# Altium schematic symbol library klp.SchLib: 211 symbols (part 1 of 2)
Pins are listed as number, name and electrical type; pins without a type are passive.

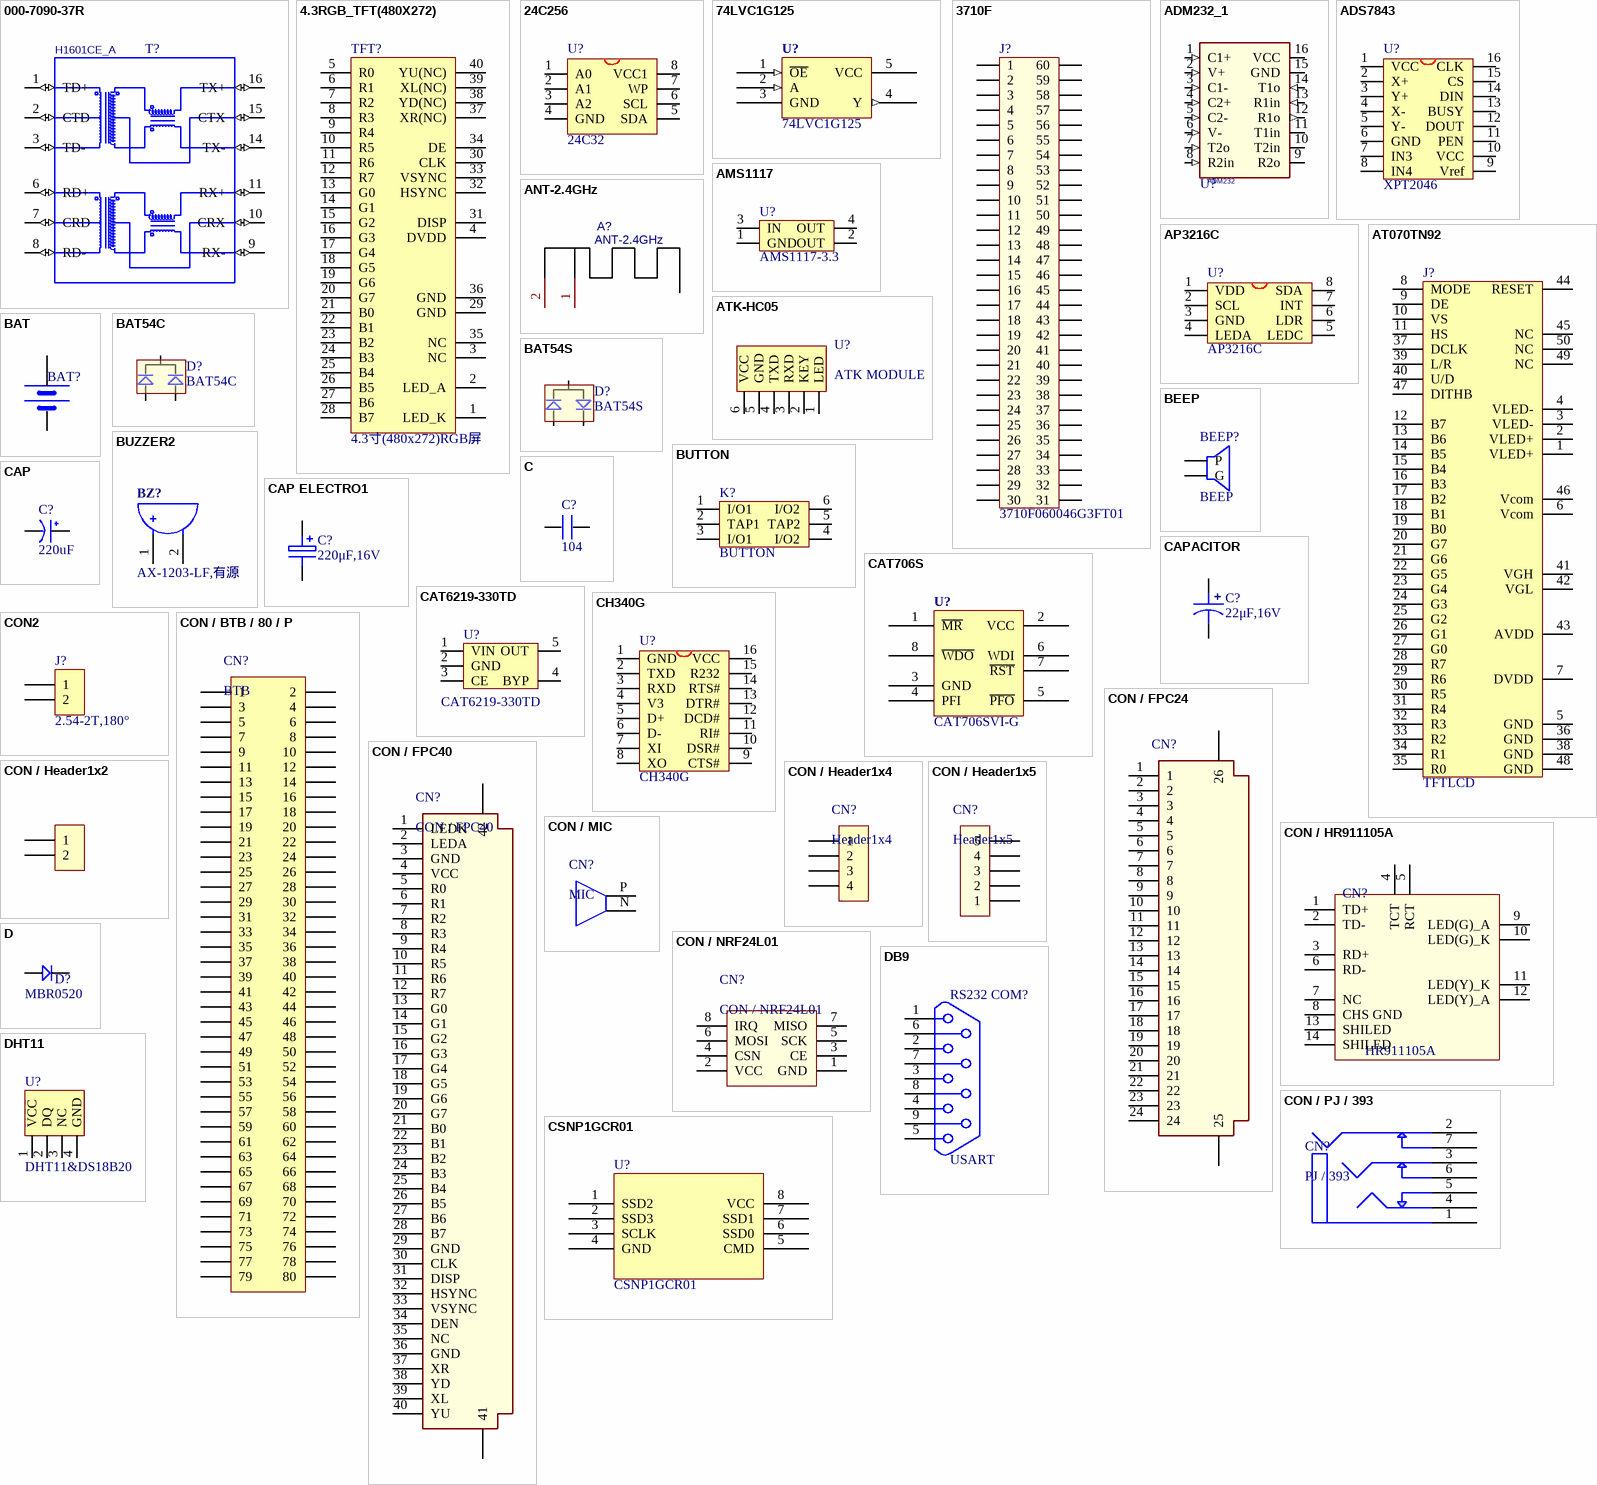
[diagram p0: symbols 000-7090-37R to DHT11]

## 000-7090-37R
designator T?  DEVICE: H1601CE_A  (hidden comment: 000-7090-37R)
PARTS: 1; LEVEL: STD; NC: 4,5,12,13; OriginalSymbolOrigin: (0,0); CODE: 9050179; %195%%232%%202%%246%: LAN变压器-1:1-0.35MH-1-2-100BASE-T接口模块-SMT; COMPONENT_HIGH_MAX: 6.4MM; PKG_TYPE: STFM16-50-299; %208%%161%%192%%224%%195%%251%%179%%198%: LAN变压器
footprint STFM16-50-2990
pins: 1 TD+ (io), 2 CTD (io), 3 TD- (io), 6 RD+ (io), 7 CRD (io), 8 RD- (io), 9 RX- (io), 10 CRX (io), 11 RX+ (io), 14 TX- (io), 15 CTX (io), 16 TX+ (io)

## 4.3RGB_TFT(480X272)
designator TFT?, comment 4.3寸(480x272)RGB屏
4.3RGB_TFT(480X272)
footprint FPC40
pins: 1 LED_K, 2 LED_A, 3 NC, 4 DVDD, 5 R0, 6 R1, 7 R2, 8 R3, 9 R4, 10 R5, 11 R6, 12 R7, 13 G0, 14 G1, 15 G2, 16 G3, 17 G4, 18 G5, 19 G6, 20 G7, 21 B0, 22 B1, 23 B2, 24 B3, 25 B4, 26 B5, 27 B6, 28 B7, 29 GND, 30 CLK, 31 DISP, 32 HSYNC, 33 VSYNC, 34 DE, 35 NC, 36 GND, 37 XR(NC), 38 YD(NC), 39 XL(NC), 40 YU(NC)

## 24C256
designator U?, comment 24C32
EEPROM
footprint SOP-8 (SSOP8)
footprint TSSOP8 (Shrink Small Outline, MSOP; 8 Leads; Body Width 3 mm; Pitch 0.65 mm)
pins: 1 A0, 2 A1, 3 A2, 4 GND, 5 SDA, 6 SCL, 7 WP, 8 VCC1

## 74LVC1G125
designator U?
74LVC1G125GV,SOT-23,NXP,RoHS; 物料代码: 1.05.05.0117; 名称: IC; 设备封装名称: SOT-23-5_74LVC1G125GV; 贴片和直插: SMT; 封装: SOT-23; 厂商: NXP; RoHS: RoHS; 型号: 74LVC1G125GV; ComponentLink1Description: ErpDataInfo; ComponentLink1URL: http://erp.zlgmcu.com/ErpExt/ErpData/ListMateriel.aspx?pkey=1.05.05.0117; Value: 74LVC1G125GV
footprint SOT-23-5
pins: 1 ~{OE} (in), 2 A (in), 3 GND (power), 4 Y (out), 5 VCC
2 alternate drawings of the same symbol

## 3710F
designator J?, comment 3710F060046G3FT01
footprint 3710F060046G3FT01 (PIN:0.8mm;SOP;FEMALE)
pins: 1, 2, 3, 4, 5, 6, 7, 8, 9, 10, 11, 12, 13, 14, 15, 16, 17, 18, 19, 20, 21, 22, 23, 24, 25, 26, 27, 28, 29, 30, 31, 32, 33, 34, 35, 36, 37, 38, 39, 40, 41, 42, 43, 44, 45, 46, 47, 48, 49, 50, 51, 52, 53, 54, 55, 56, 57, 58, 59, 60

## ADM232_1
designator U?, comment ADM232
footprint SOP16
pins: 1 C1+ (in), 2 V+ (in), 3 C1- (in), 4 C2+ (in), 5 C2- (in), 6 V- (in), 7 T2o (in), 8 R2in (in), 9 R2o, 10 T2in, 11 T1in (io), 12 R1o (out), 13 R1in (in), 14 T1o (in), 15 GND (power), 16 VCC (power)

## ADS7843
designator U?, comment XPT2046
footprint SSOP16 (ADS7843,P2P:0.625mm,w:6mm)
pins: 1 VCC, 2 X+, 3 Y+, 4 X-, 5 Y-, 6 GND, 7 IN3, 8 IN4, 9 Vref, 10 VCC, 11 PEN, 12 DOUT, 13 BUSY, 14 DIN, 15 CS, 16 CLK

## AMS1117
designator U?, comment AMS1117-3.3
footprint AMS1117
pins: 1 GND, 2 OUT, 3 IN, 4 OUT

## ANT-2.4GHz
designator A?
Contributor: kwang0621; BOM_Manufacturer Part: ANT-2.4GHz; spicePre: A; spiceSymbolName: ANT-2.4GHz
footprint ANT-2.4GHZ-04
pins: 1 FEED, 2 GND

## AP3216C
designator U?
ALS+PS Sensor
footprint QFN8 (QFN,8P,P0.97)
pins: 1 VDD, 2 SCL, 3 GND, 4 LEDA, 5 LEDC, 6 LDR, 7 INT, 8 SDA

## AT070TN92
designator J?, comment TFTLCD
7' TFTLCD
footprint FPC-TOP50 (FPCTOP;0.5mm;)
pins: 1 VLED+, 2 VLED+, 3 VLED-, 4 VLED-, 5 GND, 6 Vcom, 7 DVDD, 8 MODE, 9 DE, 10 VS, 11 HS, 12 B7, 13 B6, 14 B5, 15 B4, 16 B3, 17 B2, 18 B1, 19 B0, 20 G7, 21 G6, 22 G5, 23 G4, 24 G3, 25 G2, 26 G1, 27 G0, 28 R7, 29 R6, 30 R5, 31 R4, 32 R3, 33 R2, 34 R1, 35 R0, 36 GND, 37 DCLK, 38 GND, 39 L/R, 40 U/D, 41 VGH, 42 VGL, 43 AVDD, 44 RESET, 45 NC, 46 Vcom, 47 DITHB, 48 GND, 49 NC, 50 NC
2 alternate drawings of the same symbol

## ATK-HC05
designator U?, comment ATK MODULE
ATK-HC05
footprint HEAD6 (PIN:2.54mm;HEAD;)
pins: 1 LED, 2 KEY, 3 RXD, 4 TXD, 5 GND, 6 VCC

## BAT
designator BAT?, comment BATT  (value not drawn)
footprint BATM
pins: 1 VCC, 2 GND

## BAT54C
designator D?
双肖特基二极管
footprint SOT-23 (SOT-23; 3 Leads; Body 3.0 x 2.5 mm, inc. leads (LxW max))
pins: 1, 2, 3

## BAT54S
designator D?
双肖特基二极管
footprint SOT-23 (SOT-23; 3 Leads; Body 3.0 x 2.5 mm, inc. leads (LxW max))
pins: 1, 2, 3

## BEEP
designator BEEP?
footprint BUZZ0.25
footprint BELL-5 (PIN:5MM,SIZE:10MM)
pins: 1 P, 2 G

## BUTTON
designator K?
footprint BTN8.5*8.5
footprint BTN7*7 (7mm*7mm)
pins: 1 I/O1, 2 TAP1, 3 I/O1, 4 I/O2, 5 TAP2, 6 I/O2

## BUZZER2
designator BZ?  value AX-1203-LF,有源  (hidden comment: BUZZER2)
AX-1203-LF,有源,Φ12×7.5mm,,常州笠翔,RoHS; 物料代码: 1.06.09.0013; 名称: 讯响器; 贴片和直插: THT; 器件优选方案: 优先选用; 厂商: 常州笠翔; RoHS: RoHS; 型号: AX-1203-LF,有源,Φ12×7.5mm; ComponentLink1Description: ErpDataInfo; ComponentLink1URL: http://erp.zlgmcu.com/ErpExt/ErpData/ListMateriel.aspx?pkey=1.06.09.0013
footprint BUZZ-.28/.46
pins: 1 A, 2 B
2 alternate drawings of the same symbol

## C
designator C?, comment 104
footprint 0603P
footprint 0805
footprint CC5.08 (CAP0.1)
footprint CC4.572 (222/332)
footprint 1206
footprint 1210
footprint CC6.096
footprint CC7.62
footprint CVAR (4MM*6.6MM)
footprint 0805C
footprint 0402C
footprint 0603C
pins: 1, 2

## CAP
designator C?, comment 220uF
footprint C1206
footprint CAP2.54 (RB.1/.2)
footprint CAP5.08 (RB.2/.4)
footprint CAP7.62 (25V 2200uF)
footprint CAP10.16 (50V10000uF)
footprint CAP10.9 (50V 2200uF)
footprint CAP3.0 (100V 10uF)
footprint CAP8.0 (25V/4700uF)
footprint CAP8.0_2 (50V/4700uF)
footprint C7040 (7MM*4MM)
footprint CC1010 (SMD;W:10mm;L:10mm;)
footprint CC6.56.5 (SMD;W:6.5mm;L:6.5mm;)
footprint CC88 (SMD;W:8mm;L:8mm;)
footprint CAP2.54M (6mm*8mm)
pins: 1 VCC, 2 GND

## CAP ELECTRO1
designator C?, comment 220μF,16V
220μF,16V,Ф6.3×7mm,,珠海华冠,RoHS; 物料代码: 1.02.11.0018; 名称: 电解电容; 贴片和直插: THT; 厂商: 珠海华冠; RoHS: RoHS; 型号: 220μF,16V,Ф6.3×7mm; ComponentLink1Description: ErpDataInfo; ComponentLink1URL: http://erp.zlgmcu.com/ErpExt/ErpData/ListMateriel.aspx?pkey=1.02.11.0018; Value: 220μF,16V
footprint RB-.1/.25
pins: 1, 2
2 alternate drawings of the same symbol

## CAPACITOR
designator C?, comment 22μF,16V
22μF,16V,B型,,AVX,RoHS; 物料代码: 1.02.05.0015; 名称: 钽电容; 设备封装名称: B_22uF_16V; 贴片和直插: SMT; 器件优选方案: 优先选用; 厂商: AVX; RoHS: RoHS; 型号: 22μF,16V,B型; ComponentLink1Description: ErpDataInfo; ComponentLink1URL: http://erp.zlgmcu.com/ErpExt/ErpData/ListMateriel.aspx?pkey=1.02.05.0015; Value: 22μF,16V
footprint CAP-B (121120 改动了一点lsb)
pins: 1, 2
2 alternate drawings of the same symbol

## CAT706S
designator U?  value CAT706SVI-G  (hidden comment: CAT706S)
CAT706SVI-G,SO-8,ON; 物料代码: 1.05.07.0027; 名称: IC; 设备封装名称: SO-8_CAT706SVI-G; 贴片和直插: SMT; 封装: SO-8; 厂商: ON; 型号: CAT706SVI-G; ComponentLink1Description: ErpDataInfo; ComponentLink1URL: http://erp.zlgmcu.com/ErpExt/ErpData/ListMateriel.aspx?pkey=1.05.07.0027
footprint SOIC127P600X175-8N
pins: 1 ~{MR}, 2 VCC, 3 GND, 4 PFI, 5 ~{PFO}, 6 WDI, 7 ~{RST}, 8 ~{WDO}
2 alternate drawings of the same symbol

## CAT6219-330TD
designator U?
3.3V 500mA LDO
footprint SOT-23-5
pins: 1 VIN, 2 GND, 3 CE, 4 BYP, 5 OUT

## CH340G
designator U?
USB2UART
footprint SOP16M (Small Outline; 16 Leads; Body Width 3.9 mm; Pitch 1.27 mm)
pins: 1 GND, 2 TXD, 3 RXD, 4 V3, 5 D+, 6 D-, 7 XI, 8 XO, 9 CTS#, 10 DSR#, 11 RI#, 12 DCD#, 13 DTR#, 14 RTS#, 15 R232, 16 VCC

## CON2
designator J?  value 2.54-2T,180°  (hidden comment: CON2)
2.54-2T,180°,,*; 物料代码: 1.10.06.0009; 名称: 插座; 贴片和直插: THT; 型号: 2.54-2T,180°; ComponentLink1Description: ErpDataInfo; ComponentLink1URL: http://erp.zlgmcu.com/ErpExt/ErpData/ListMateriel.aspx?pkey=1.10.06.0009
footprint CN-2-2.54 (原名：CN-2)
pins: 1, 2
2 alternate drawings of the same symbol

## CON / BTB / 80 / P
designator CN?, comment BTB
BTB板对板连接器
footprint AXK5F80547YG
pins: 1, 2, 3, 4, 5, 6, 7, 8, 9, 10, 11, 12, 13, 14, 15, 16, 17, 18, 19, 20, 21, 22, 23, 24, 25, 26, 27, 28, 29, 30, 31, 32, 33, 34, 35, 36, 37, 38, 39, 40, 41, 42, 43, 44, 45, 46, 47, 48, 49, 50, 51, 52, 53, 54, 55, 56, 57, 58, 59, 60, 61, 62, 63, 64, 65, 66, 67, 68, 69, 70, 71, 72, 73, 74, 75, 76, 77, 78, 79, 80

## CON / FPC24
designator CN?
footprint FPC24
pins: 1, 2, 3, 4, 5, 6, 7, 8, 9, 10, 11, 12, 13, 14, 15, 16, 17, 18, 19, 20, 21, 22, 23, 24, 25, 26

## CON / FPC40
designator CN?
footprint FPC40
pins: 1 LEDK, 2 LEDA, 3 GND, 4 VCC, 5 R0, 6 R1, 7 R2, 8 R3, 9 R4, 10 R5, 11 R6, 12 R7, 13 G0, 14 G1, 15 G2, 16 G3, 17 G4, 18 G5, 19 G6, 20 G7, 21 B0, 22 B1, 23 B2, 24 B3, 25 B4, 26 B5, 27 B6, 28 B7, 29 GND, 30 CLK, 31 DISP, 32 HSYNC, 33 VSYNC, 34 DEN, 35 NC, 36 GND, 37 XR, 38 YD, 39 XL, 40 YU, 41, 42

## CON / Header1x2
designator CN?, comment Header1x2
排针
footprint Header1x2
pins: 1, 2

## CON / Header1x4
designator CN?, comment Header1x4
排针
footprint HEADER1X4
pins: 1, 2, 3, 4

## CON / Header1x5
designator CN?, comment Header1x5
排针
footprint Header1x5
pins: 1, 2, 3, 4, 5

## CON / HR911105A
designator CN?, comment HR911105A
RJ45插座
footprint HR911105A (NET_WORK)
pins: 1 TD+, 2 TD-, 3 RD+, 4 TCT, 5 RCT, 6 RD-, 7 NC, 8 CHS GND, 9 LED(G)_A, 10 LED(G)_K, 11 LED(Y)_K, 12 LED(Y)_A, 13 SHILED, 14 SHILED

## CON / MIC
designator CN?, comment MIC
咪头
footprint MIC
pins: N, P

## CON / NRF24L01
designator CN?
2.4G射频无线
footprint NRF24L01
pins: 1 GND, 2 VCC, 3 CE, 4 CSN, 5 SCK, 6 MOSI, 7 MISO, 8 IRQ

## CON / PJ / 393
designator CN?, comment PJ / 393
7引脚多音频插座
footprint PJ393
pins: 1 COM, 2, 3, 4, 5, 6, 7

## CSNP1GCR01
designator U?
footprint CSNP1GCR01
pins: 1 SSD2, 2 SSD3, 3 SCLK, 4 GND, 5 CMD, 6 SSD0, 7 SSD1, 8 VCC

## D
designator D?, comment MBR0520
1N4148
footprint SOD-123
footprint DIODE_SOP (4148)
footprint DIODE-L (6A10)
footprint DIODE-M (1N5822)
footprint DIODE_S (1N4007)
footprint DIODE_3*5.3 (ME:SS14/SS24;L:5.3mm;W:3mm;)
footprint DIODE_4*5.6 (ME:RS2J.L:5.6mm;W:4mm)
footprint DIODE_6.2*8.13 (ME:RS2J.L:8.13mm;W:6.2mm)
pins: 1, 2

## DB9
designator RS232 COM?, comment USART
footprint DB9
pins: 1, 2, 3, 4, 5, 6, 7, 8, 9
2 alternate drawings of the same symbol

## DHT11
designator U?, comment DHT11&DS18B20
数字温湿度传感器
footprint DHT11 (2.54mm)
pins: 1 VCC, 2 DQ, 3 NC, 4 GND

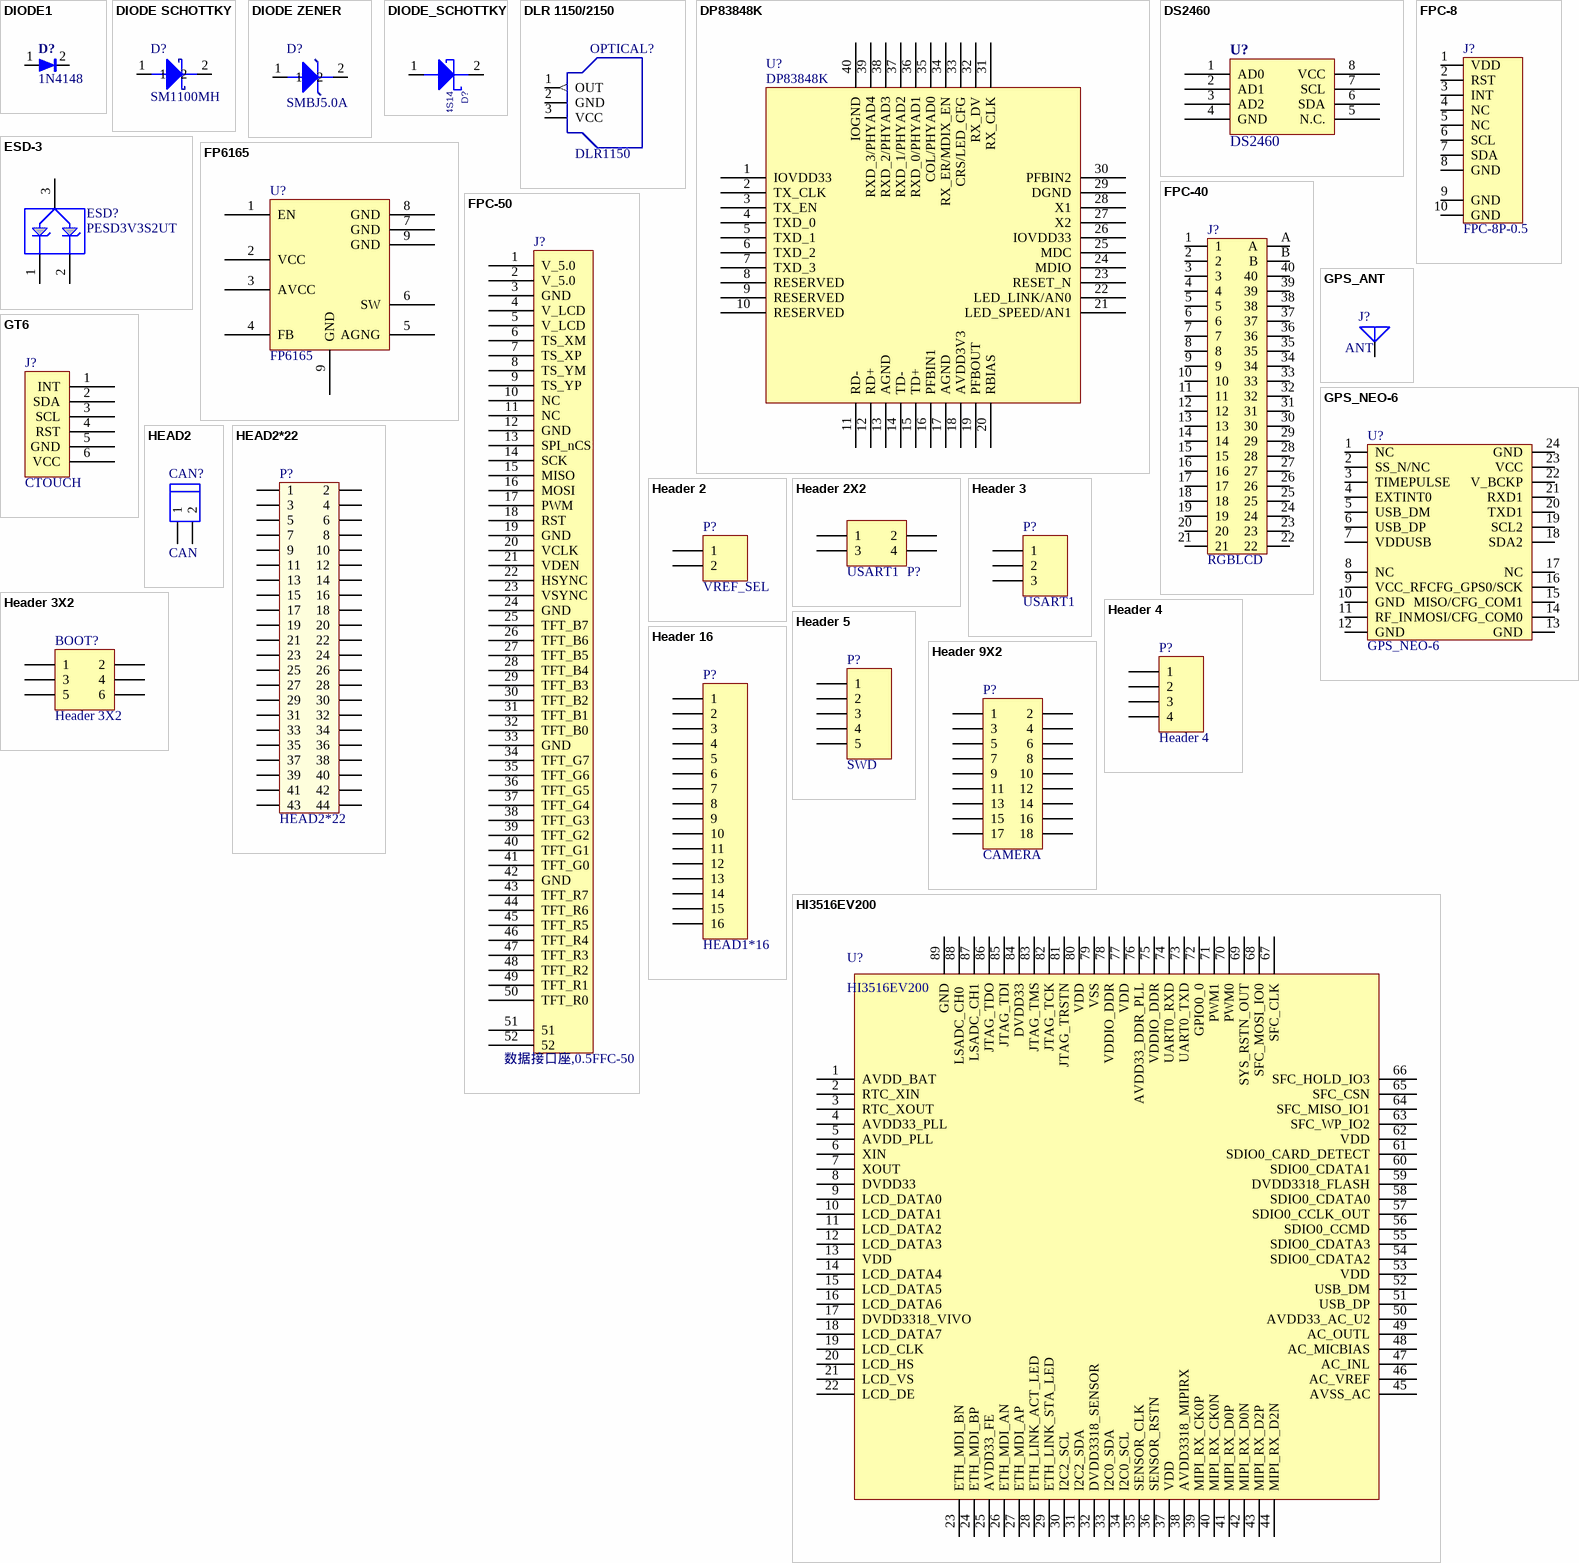
[diagram p1: symbols DIODE1 to HI3516EV200]

## DIODE1
designator D?  value 1N4148  (hidden comment: DIODE1)  (no BOM)
1N4148,SOD-323,RoHS; 物料代码: 1.04.07.0027; 名称: 二极管; 设备封装名称: SOD-323_1N4148; 贴片和直插: SMT; 封装: SOD-323; RoHS: RoHS; 型号: 1N4148; ComponentLink1Description: ErpDataInfo; ComponentLink1URL: http://erp.zlgmcu.com/ErpExt/ErpData/ListMateriel.aspx?pkey=1.04.07.0027
footprint SOD-323
pins: 1, 2
2 alternate drawings of the same symbol

## DIODE SCHOTTKY
designator D?  value SM1100MH  (hidden comment: DIODE SCHOTTKY)
SM1100MH,SOD-123,SECOS,RoHS; 物料代码: 1.04.07.0063; 名称: 肖特基二极管; 贴片和直插: SMT; 封装: SOD-123; 厂商: SECOS; RoHS: RoHS; 型号: SM1100MH; ComponentLink1Description: ErpDataInfo; ComponentLink1URL: http://erp.zlgmcu.com/ErpExt/ErpData/ListMateriel.aspx?pkey=1.04.07.0063
footprint SOD-123
pins: 1, 2

## DIODE ZENER
designator D?  value SMBJ5.0A  (hidden comment: DIODE ZENER)
SMBJ5.0A,DO-214AA,君耀,RoHS; 物料代码: 1.04.03.0001; 名称: TVS管; 设备封装名称: DO-214AA_SMBJ5.0A; 贴片和直插: SMT; 器件优选方案: 优先选用; 封装: DO-214AA; 厂商: 君耀; RoHS: RoHS; 型号: SMBJ5.0A; ComponentLink1Description: ErpDataInfo; ComponentLink1URL: http://erp.zlgmcu.com/ErpExt/ErpData/ListMateriel.aspx?pkey=1.04.03.0001
footprint 1812D
pins: 1, 2
2 alternate drawings of the same symbol

## DIODE_SCHOTTKY
designator D?, comment XBS104S14
Page: 7
footprint SOD-123
pins: 1, 2

## DLR 1150/2150
designator OPTICAL?, comment DLR1150
音频光纤接收座
footprint DLR-1150 / 2150 (光纤接收座13.55x9.70x12.00)
pins: 1 OUT (out), 2 GND (power), 3 VCC (power)

## DP83848K
designator U?
Industrial Temperature Single Port 10/100 Ethernet Transceiver
footprint QFN50P600X600X100-41N
pins: 1 IOVDD33, 2 TX_CLK, 3 TX_EN, 4 TXD_0, 5 TXD_1, 6 TXD_2, 7 TXD_3, 8 RESERVED, 9 RESERVED, 10 RESERVED, 11 RD-, 12 RD+, 13 AGND, 14 TD-, 15 TD+, 16 PFBIN1, 17 AGND, 18 AVDD3V3, 19 PFBOUT, 20 RBIAS, 21 LED_SPEED/AN1, 22 LED_LINK/AN0, 23 RESET_N, 24 MDIO, 25 MDC, 26 IOVDD33, 27 X2, 28 X1, 29 DGND, 30 PFBIN2, 31 RX_CLK, 32 RX_DV, 33 CRS/LED_CFG, 34 RX_ER/MDIX_EN, 35 COL/PHYAD0, 36 RXD_0/PHYAD1, 37 RXD_1/PHYAD2, 38 RXD_2/PHYAD3, 39 RXD_3/PHYAD4, 40 IOGND, 41 DAP hidden to GND

## DS2460
designator U?
DS2460,SO-8,Maxim,RoHS; 物料代码: 1.05.10.0117; 名称: IC; 设备封装名称: SO-8_DS2460; 贴片和直插: SMT; 封装: SO-8; 厂商: Maxim; RoHS: RoHS; 型号: DS2460; ComponentLink1Description: ErpDataInfo; ComponentLink1URL: http://erp.zlgmcu.com/ErpExt/ErpData/ListMateriel.aspx?pkey=1.05.10.0117; Value: DS2460
footprint SOIC127P600X175-8N
pins: 1 AD0, 2 AD1, 3 AD2, 4 GND, 5 N.C., 6 SDA, 7 SCL, 8 VCC
2 alternate drawings of the same symbol

## ESD-3
designator ESD?  value PESD3V3S2UT  (hidden comment: ESD-3)
PESD3V3S2UT,SOT-23,NXP,RoHS; 物料代码: 1.05.10.0361; 名称: IC; 设备封装名称: SOT-23_PESD3V3S2UT; 贴片和直插: SMT; 封装: SOT-23; 厂商: NXP; RoHS: RoHS; 型号: PESD3V3S2UT; ComponentLink1Description: ErpDataInfo; ComponentLink1URL: http://erp.zlgmcu.com/ErpExt/ErpData/ListMateriel.aspx?pkey=1.05.10.0361
footprint SOT-23
pins: 1, 2, 3
2 alternate drawings of the same symbol

## FP6165
designator U?
footprint SOP-8(PAD) (AOZ1284 4A输出电源芯片的封装)
pins: 1 EN, 2 VCC, 3 AVCC, 4 FB, 5 AGNG, 6 SW, 7 GND, 8 GND, 9 GND, 9 GND

## FPC-8
designator J?, comment FPC-8P-0.5
FPC-8P-0.5mm
footprint FPC50
footprint FPC-8P (FPC;8P;0.5mm;)
pins: 1 VDD, 2 RST, 3 INT, 4 NC, 5 NC, 6 SCL, 7 SDA, 8 GND, 9 GND, 10 GND
2 alternate drawings of the same symbol

## FPC-40
designator J?, comment RGBLCD
FPC-40P-0.5mm
footprint FPC-TOP40 (FPCTOP;0.5mm;)
pins: 1, 2, 3, 4, 5, 6, 7, 8, 9, 10, 11, 12, 13, 14, 15, 16, 17, 18, 19, 20, 21, 22, 23, 24, 25, 26, 27, 28, 29, 30, 31, 32, 33, 34, 35, 36, 37, 38, 39, 40, A, B

## FPC-50
designator J?  value 数据接口座,0.5FFC-50  (hidden comment: FPC-50)
数据接口座,0.5FFC-50,SMD,下接,RoHS; 物料代码: 1.10.01.0028; 名称: 连接器-SMD; 贴片和直插: SMT; RoHS: RoHS; 型号: 数据接口座,0.5FFC-50,SMD,下接; ComponentLink1Description: ErpDataInfo; ComponentLink1URL: http://erp.zlgmcu.com/ErpExt/ErpData/ListMateriel.aspx?pkey=1.10.01.0028
footprint FFC0.5-50P-A
pins: 1 V_5.0, 2 V_5.0, 3 GND, 4 V_LCD, 5 V_LCD, 6 TS_XM, 7 TS_XP, 8 TS_YM, 9 TS_YP, 10 NC, 11 NC, 12 GND, 13 SPI_nCS, 14 SCK, 15 MISO, 16 MOSI, 17 PWM, 18 RST, 19 GND, 20 VCLK, 21 VDEN, 22 HSYNC, 23 VSYNC, 24 GND, 25 TFT_B7, 26 TFT_B6, 27 TFT_B5, 28 TFT_B4, 29 TFT_B3, 30 TFT_B2, 31 TFT_B1, 32 TFT_B0, 33 GND, 34 TFT_G7, 35 TFT_G6, 36 TFT_G5, 37 TFT_G4, 38 TFT_G3, 39 TFT_G2, 40 TFT_G1, 41 TFT_G0, 42 GND, 43 TFT_R7, 44 TFT_R6, 45 TFT_R5, 46 TFT_R4, 47 TFT_R3, 48 TFT_R2, 49 TFT_R1, 50 TFT_R0, 51, 52

## GPS_ANT
designator J?, comment ANT
GPS陶瓷天线25mm*25mm
footprint GPS_ANT (25mm*25m)
pins: 1 ANT

## GPS_NEO-6
designator U?
footprint GPS_NEO-6 (NEO-6G/NEO-6M/NEO-6Q)
pins: 1 NC, 2 SS_N/NC, 3 TIMEPULSE, 4 EXTINT0, 5 USB_DM, 6 USB_DP, 7 VDDUSB, 8 NC, 9 VCC_RF, 10 GND, 11 RF_IN, 12 GND, 13 GND, 14 MOSI/CFG_COM0, 15 MISO/CFG_COM1, 16 CFG_GPS0/SCK, 17 NC, 18 SDA2, 19 SCL2, 20 TXD1, 21 RXD1, 22 V_BCKP, 23 VCC, 24 GND

## GT6
designator J?, comment CTOUCH
footprint CTOUCH_6
pins: 1 INT, 2 SDA, 3 SCL, 4 RST, 5 GND, 6 VCC

## HEAD2
designator CAN?, comment CAN
footprint HEAD2H (HEAD5.08)
footprint HEAD2L (HEAD5.08)
footprint HEAD2L-0.8 (10.16mm*10.16mm,pin:5.08mm)
footprint HEAD2W (2EDG-2,pin:5.08mm)
pins: 1, 2

## HEAD2*22
designator P?
footprint HEAD2*22 (PIN:2.54mm;HEAD;)
pins: 1, 2, 3, 4, 5, 6, 7, 8, 9, 10, 11, 12, 13, 14, 15, 16, 17, 18, 19, 20, 21, 22, 23, 24, 25, 26, 27, 28, 29, 30, 31, 32, 33, 34, 35, 36, 37, 38, 39, 40, 41, 42, 43, 44

## Header 2
designator P?, comment VREF_SEL
Header, 2-Pin; LatestRevisionDate: 17-Jul-2002; LatestRevisionNote: Re-released for DXP Platform.; Publisher: Altium Limited
footprint HDR1X2 (Connector; Header; 2 Position)
pins: 1, 2

## Header 2X2
designator P?, comment USART1
Header, 2-Pin, Dual row; LatestRevisionDate: 17-Jul-2002; LatestRevisionNote: Re-released for DXP Platform.; Publisher: Altium Limited
footprint HDR2X2 (Connector; Header; 2x2 Position)
pins: 1, 2, 3, 4

## Header 3
designator P?, comment USART1
Header, 3-Pin; LatestRevisionDate: 17-Jul-2002; LatestRevisionNote: Re-released for DXP Platform.; Publisher: Altium Limited
footprint HDR1X3 (Connector; Header; 3 Position)
signal-integrity model Connector
pins: 1, 2, 3

## Header 3X2
designator BOOT?
Header, 3-Pin, Dual row; LatestRevisionDate: 17-Jul-2002; LatestRevisionNote: Re-released for DXP Platform.; Publisher: Altium Limited
footprint HDR2X3 (Connector; Header; 3x2 Position)
pins: 1, 2, 3, 4, 5, 6

## Header 4
designator P?
Header, 4-Pin; LatestRevisionDate: 17-Jul-2002; LatestRevisionNote: Re-released for DXP Platform.; Publisher: Altium Limited
footprint HDR1X4 (Connector; Header; 4 Position)
pins: 1, 2, 3, 4

## Header 5
designator P?, comment SWD
Header, 5-Pin; LatestRevisionDate: 17-Jul-2002; LatestRevisionNote: Re-released for DXP Platform.; Publisher: Altium Limited
footprint HDR1X5 (Connector; Header; 5 Position)
signal-integrity model Connector
pins: 1, 2, 3, 4, 5

## Header 9X2
designator P?, comment CAMERA
Header, 9-Pin, Dual row; LatestRevisionDate: 17-Jul-2002; LatestRevisionNote: Re-released for DXP Platform.; Publisher: Altium Limited
footprint HDR2X9 (Connector; Header; 9x2 Position)
pins: 1, 2, 3, 4, 5, 6, 7, 8, 9, 10, 11, 12, 13, 14, 15, 16, 17, 18

## Header 16
designator P?, comment HEAD1*16
Header, 16-Pin; LatestRevisionDate: 17-Jul-2002; LatestRevisionNote: Re-released for DXP Platform.; Publisher: Altium Limited
footprint HDR1X16 (Connector; Header; 16 Position)
signal-integrity model Connector
pins: 1, 2, 3, 4, 5, 6, 7, 8, 9, 10, 11, 12, 13, 14, 15, 16

## HI3516EV200
designator U?
footprint V200_MLF88-035-0909L - duplicate
pins: 1 AVDD_BAT  , 2 RTC_XIN  , 3 RTC_XOUT, 4 AVDD33_PLL, 5 AVDD_PLL, 6 XIN, 7 XOUT, 8 DVDD33, 9 LCD_DATA0, 10 LCD_DATA1, 11 LCD_DATA2, 12 LCD_DATA3, 13 VDD, 14 LCD_DATA4, 15 LCD_DATA5, 16 LCD_DATA6, 17 DVDD3318_VIVO, 18 LCD_DATA7  , 19 LCD_CLK, 20 LCD_HS, 21 LCD_VS, 22 LCD_DE, 23 ETH_MDI_BN, 24 ETH_MDI_BP, 25 AVDD33_FE, 26 ETH_MDI_AN, 27 ETH_MDI_AP, 28 ETH_LINK_ACT_LED, 29 ETH_LINK_STA_LED, 30 I2C2_SCL, 31 I2C2_SDA, 32 DVDD3318_SENSOR, 33 I2C0_SDA, 34 I2C0_SCL, 35 SENSOR_CLK, 36 SENSOR_RSTN, 37 VDD, 38 AVDD3318_MIPIRX, 39 MIPI_RX_CK0P, 40 MIPI_RX_CK0N, 41 MIPI_RX_D0P, 42 MIPI_RX_D0N, 43 MIPI_RX_D2P, 44 MIPI_RX_D2N, 45 AVSS_AC, 46 AC_VREF, 47 AC_INL, 48 AC_MICBIAS, 49 AC_OUTL, 50 AVDD33_AC_U2, 51 USB_DP, 52 USB_DM, 53 VDD, 54 SDIO0_CDATA2, 55 SDIO0_CDATA3, 56 SDIO0_CCMD, 57 SDIO0_CCLK_OUT, 58 SDIO0_CDATA0, 59 DVDD3318_FLASH, 60 SDIO0_CDATA1, 61 SDIO0_CARD_DETECT, 62 VDD, 63 SFC_WP_IO2, 64 SFC_MISO_IO1, 65 SFC_CSN, 66 SFC_HOLD_IO3, 67 SFC_CLK, 68 SFC_MOSI_IO0, 69 SYS_RSTN_OUT, 70 PWM0, 71 PWM1, 72 GPIO0_0, 73 UART0_TXD, 74 UART0_RXD, 75 VDDIO_DDR, 76 AVDD33_DDR_PLL, 77 VDD, 78 VDDIO_DDR, 79 VSS, 80 VDD, 81 JTAG_TRSTN, 82 JTAG_TCK, 83 JTAG_TMS, 84 DVDD33, 85 JTAG_TDI, 86 JTAG_TDO, 87 LSADC_CH1, 88 LSADC_CH0 , 89 GND

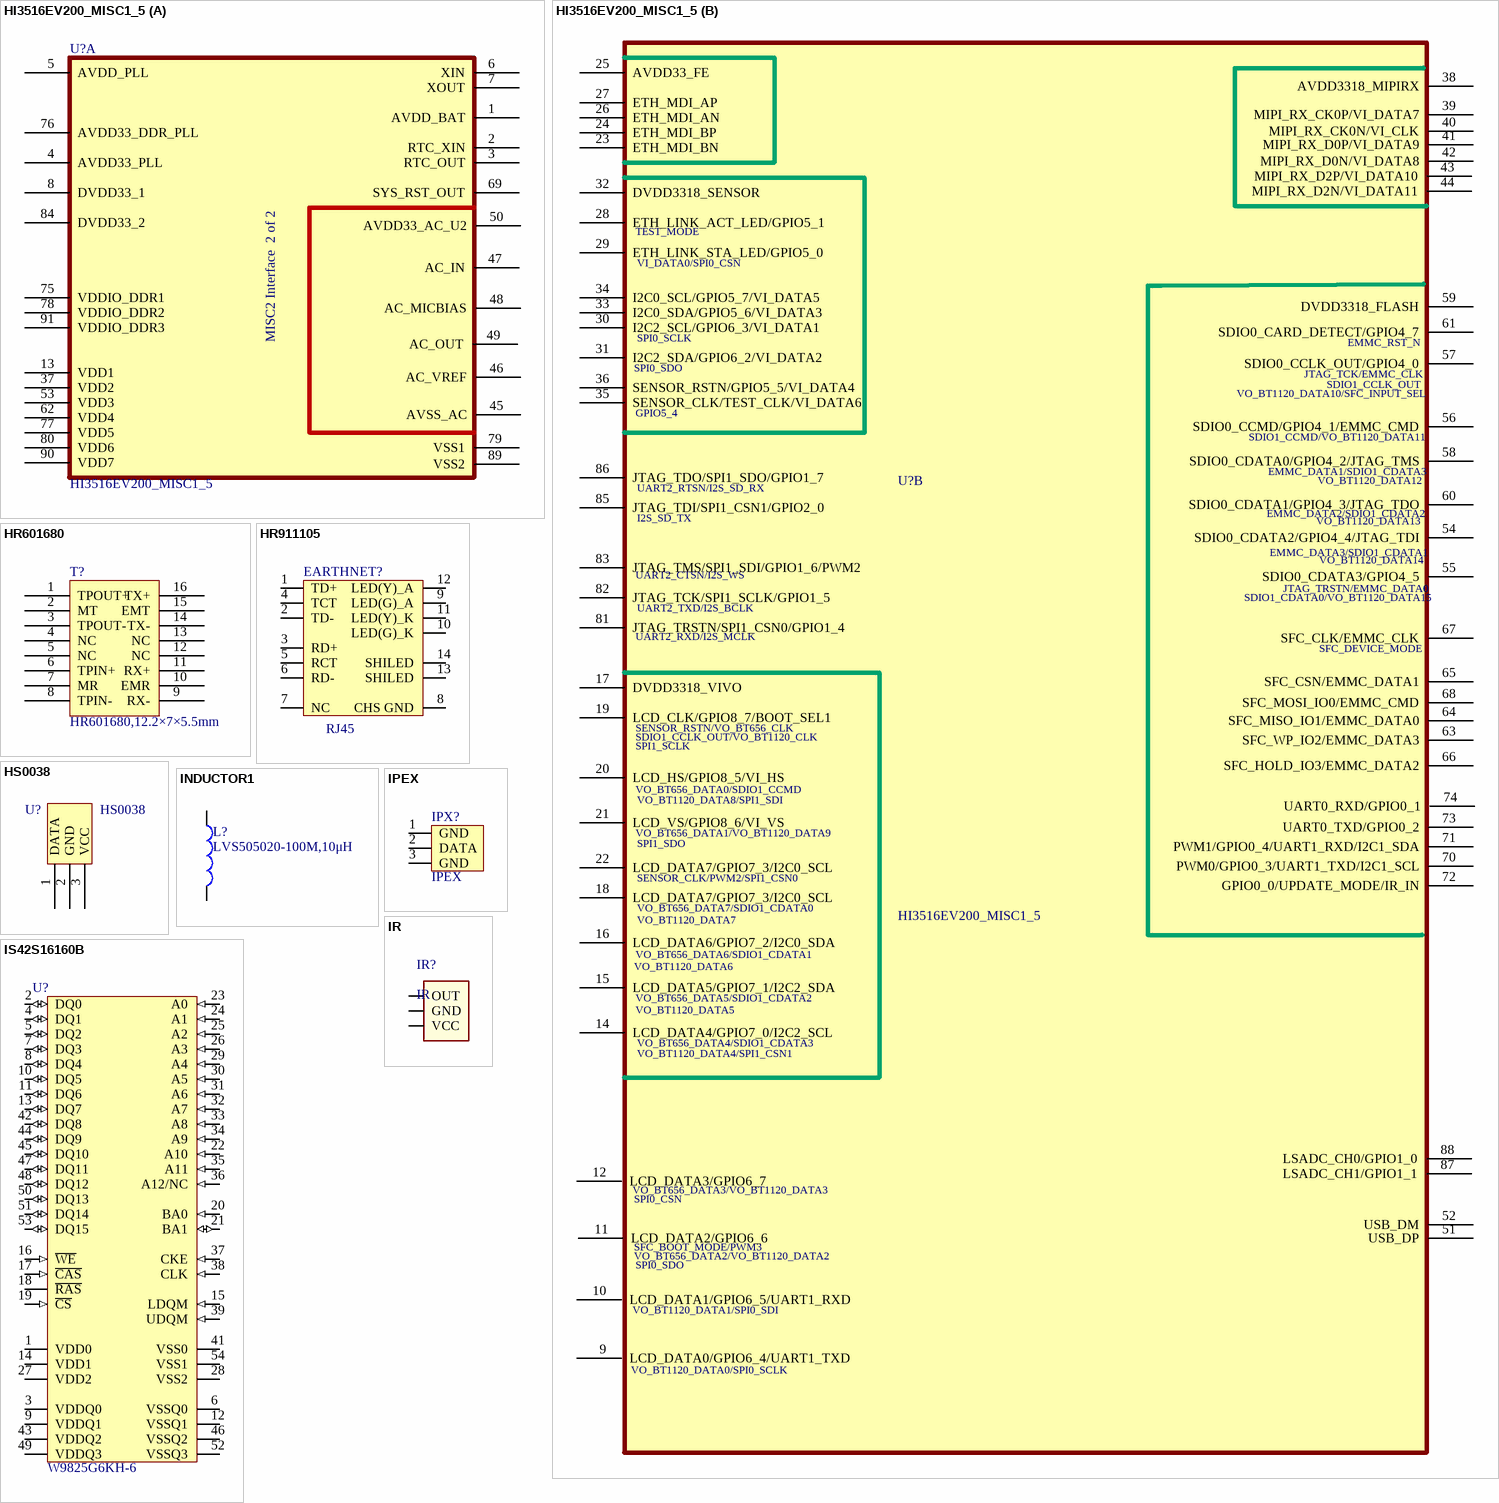
[diagram p2: symbols HI3516EV200_MISC1_5 to IS42S16160B]

## HI3516EV200_MISC1_5
designator U?
HETERO: *; PARTS: *; LEVEL: *; OriginalSymbolOrigin: *; CaptureCellPackProp: *; PKG_TYPE: *; DEVICE: *
footprint V200_MLF88-035-0909L
part A pins: 1 AVDD_BAT, 2 RTC_XIN, 3 RTC_OUT, 4 AVDD33_PLL, 5 AVDD_PLL, 6 XIN, 7 XOUT, 8 DVDD33_1, 13 VDD1, 37 VDD2, 45 AVSS_AC, 46 AC_VREF, 47 AC_IN, 48 AC_MICBIAS, 49 AC_OUT, 50 AVDD33_AC_U2, 53 VDD3, 62 VDD4, 69 SYS_RST_OUT, 75 VDDIO_DDR1, 76 AVDD33_DDR_PLL, 77 VDD5, 78 VDDIO_DDR2, 79 VSS1, 80 VDD6, 84 DVDD33_2, 89 VSS2, 90 VDD7, 91 VDDIO_DDR3
part B pins: 9 LCD_DATA0/GPIO6_4/UART1_TXD, 10 LCD_DATA1/GPIO6_5/UART1_RXD, 11 LCD_DATA2/GPIO6_6, 12 LCD_DATA3/GPIO6_7, 14 LCD_DATA4/GPIO7_0/I2C2_SCL, 15 LCD_DATA5/GPIO7_1/I2C2_SDA, 16 LCD_DATA6/GPIO7_2/I2C0_SDA, 17 DVDD3318_VIVO, 18 LCD_DATA7/GPIO7_3/I2C0_SCL, 19 LCD_CLK/GPIO8_7/BOOT_SEL1, 20 LCD_HS/GPIO8_5/VI_HS, 21 LCD_VS/GPIO8_6/VI_VS, 22 LCD_DATA7/GPIO7_3/I2C0_SCL, 23 ETH_MDI_BN, 24 ETH_MDI_BP, 25 AVDD33_FE, 26 ETH_MDI_AN, 27 ETH_MDI_AP, 28 ETH_LINK_ACT_LED/GPIO5_1, 29 ETH_LINK_STA_LED/GPIO5_0, 30 I2C2_SCL/GPIO6_3/VI_DATA1, 31 I2C2_SDA/GPIO6_2/VI_DATA2, 32 DVDD3318_SENSOR, 33 I2C0_SDA/GPIO5_6/VI_DATA3, 34 I2C0_SCL/GPIO5_7/VI_DATA5, 35 SENSOR_CLK/TEST_CLK/VI_DATA6, 36 SENSOR_RSTN/GPIO5_5/VI_DATA4, 38 AVDD3318_MIPIRX, 39 MIPI_RX_CK0P/VI_DATA7, 40 MIPI_RX_CK0N/VI_CLK, 41 MIPI_RX_D0P/VI_DATA9, 42 MIPI_RX_D0N/VI_DATA8, 43 MIPI_RX_D2P/VI_DATA10, 44 MIPI_RX_D2N/VI_DATA11, 51 USB_DP, 52 USB_DM, 54 SDIO0_CDATA2/GPIO4_4/JTAG_TDI, 55 SDIO0_CDATA3/GPIO4_5, 56 SDIO0_CCMD/GPIO4_1/EMMC_CMD, 57 SDIO0_CCLK_OUT/GPIO4_0, 58 SDIO0_CDATA0/GPIO4_2/JTAG_TMS, 59 DVDD3318_FLASH, 60 SDIO0_CDATA1/GPIO4_3/JTAG_TDO, 61 SDIO0_CARD_DETECT/GPIO4_7, 63 SFC_WP_IO2/EMMC_DATA3, 64 SFC_MISO_IO1/EMMC_DATA0, 65 SFC_CSN/EMMC_DATA1, 66 SFC_HOLD_IO3/EMMC_DATA2, 67 SFC_CLK/EMMC_CLK, 68 SFC_MOSI_IO0/EMMC_CMD, 70 PWM0/GPIO0_3/UART1_TXD/I2C1_SCL, 71 PWM1/GPIO0_4/UART1_RXD/I2C1_SDA, 72 GPIO0_0/UPDATE_MODE/IR_IN, 73 UART0_TXD/GPIO0_2, 74 UART0_RXD/GPIO0_1, 81 JTAG_TRSTN/SPI1_CSN0/GPIO1_4, 82 JTAG_TCK/SPI1_SCLK/GPIO1_5, 83 JTAG_TMS/SPI1_SDI/GPIO1_6/PWM2, 85 JTAG_TDI/SPI1_CSN1/GPIO2_0, 86 JTAG_TDO/SPI1_SDO/GPIO1_7, 87 LSADC_CH1/GPIO1_1, 88 LSADC_CH0/GPIO1_0
2 alternate drawings of the same symbol
part A text: MISC2 Interface  2 of 2
part B text: TEST_MODE; VI_DATA0/SPI0_CSN; SPI0_SCLK; EMMC_RST_N; SPI0_SDO; JTAG_TCK/EMMC_CLK; SDIO1_CCLK_OUT; VO_BT1120_DATA10/SFC_INPUT_SEL; GPIO5_4; SDIO1_CCMD/VO_BT1120_DATA11; EMMC_DATA1/SDIO1_CDATA3; VO_BT1120_DATA12; UART2_RTSN/I2S_SD_RX; EMMC_DATA2/SDIO1_CDATA2; I2S_SD_TX; VO_BT1120_DATA13; EMMC_DATA3/SDIO1_CDATA1; VO_BT1120_DATA14; UART2_CTSN/I2S_WS; JTAG_TRSTN/EMMC_DATA0; SDIO1_CDATA0/VO_BT1120_DATA15; UART2_TXD/I2S_BCLK; UART2_RXD/I2S_MCLK; SFC_DEVICE_MODE; SENSOR_RSTN/VO_BT656_CLK; SDIO1_CCLK_OUT/VO_BT1120_CLK; SPI1_SCLK; VO_BT656_DATA0/SDIO1_CCMD; VO_BT1120_DATA8/SPI1_SDI; VO_BT656_DATA1/VO_BT1120_DATA9; SPI1_SDO; SENSOR_CLK/PWM2/SPI1_CSN0; VO_BT656_DATA7/SDIO1_CDATA0; VO_BT1120_DATA7; VO_BT656_DATA6/SDIO1_CDATA1; VO_BT1120_DATA6; VO_BT656_DATA5/SDIO1_CDATA2; VO_BT1120_DATA5; VO_BT656_DATA4/SDIO1_CDATA3; VO_BT1120_DATA4/SPI1_CSN1; VO_BT656_DATA3/VO_BT1120_DATA3; SPI0_CSN; SFC_BOOT_MODE/PWM3; VO_BT656_DATA2/VO_BT1120_DATA2; VO_BT1120_DATA1/SPI0_SDI; VO_BT1120_DATA0/SPI0_SCLK

## HR601680
designator T?  value HR601680,12.2×7×5.5mm  (hidden comment: HR601680)
HR601680,12.2×7×5.5mm,SOP-16,RoHS; 物料代码: 1.06.06.0002; 名称: 网络变压器; 设备封装名称: SOP-16_HR601680_12.2x7x5.5; 贴片和直插: SMT; 封装: SOP-16; RoHS: RoHS; 型号: HR601680,12.2×7×5.5mm; ComponentLink1Description: ErpDataInfo; ComponentLink1URL: http://erp.zlgmcu.com/ErpExt/ErpData/ListMateriel.aspx?pkey=1.06.06.0002
footprint TRAN16-12R2X7X5R5-SM
pins: 1 TPOUT+, 2 MT, 3 TPOUT-, 4 NC, 5 NC, 6 TPIN+, 7 MR, 8 TPIN-, 9 RX-, 10 EMR, 11 RX+, 12 NC, 13 NC, 14 TX-, 15 EMT, 16 TX+

## HR911105
designator EARTHNET?, comment RJ45
footprint HR911105A (NET_WORK)
pins: 1 TD+, 2 TD-, 3 RD+, 4 TCT, 5 RCT, 6 RD-, 7 NC, 8 CHS GND, 9 LED(G)_A, 10 LED(G)_K, 11 LED(Y)_K, 12 LED(Y)_A, 13 SHILED, 14 SHILED

## HS0038
designator U?
footprint HS0038
pins: 1 DATA, 2 GND, 3 VCC

## INDUCTOR1
designator L?  value LVS505020-100M,10μH  (hidden comment: INDUCTOR1)
LVS505020-100M,10μH,1.6A,SMD,奇力新,RoHS; 物料代码: 1.03.01.0159; 名称: 电感; 贴片和直插: SMT; 封装: SMD; 厂商: 奇力新; RoHS: RoHS; 型号: LVS505020-100M,10μH,1.6A; ComponentLink1Description: ErpDataInfo; ComponentLink1URL: http://erp.zlgmcu.com/ErpExt/ErpData/ListMateriel.aspx?pkey=1.03.01.0159
footprint L-5.0X5.0-LVS
pins: 1, 2
2 alternate drawings of the same symbol

## IPEX
designator IPX?
IPEX座
footprint IPEX (IPEX座 2.6mm*2.6mm*1.25mm)
pins: 1 GND, 2 DATA, 3 GND

## IR
designator IR?
红外接收头
footprint Header1x3
pins: 1 OUT, 2 GND, 3 VCC

## IS42S16160B
designator U?, comment W9825G6KH-6
32MB SDRAM
footprint TSOP54
pins: 1 VDD0 (power), 2 DQ0 (io), 3 VDDQ0 (power), 4 DQ1 (io), 5 DQ2 (io), 6 VSSQ0 (power), 7 DQ3 (io), 8 DQ4 (io), 9 VDDQ1 (power), 10 DQ5 (io), 11 DQ6 (io), 12 VSSQ1 (power), 13 DQ7 (io), 14 VDD1 (power), 15 LDQM (in), 16 ~{WE} (in), 17 ~{CAS} (in), 18 ~{RAS}, 19 ~{CS} (in), 20 BA0 (in), 21 BA1 (io), 22 A10 (in), 23 A0 (in), 24 A1 (in), 25 A2 (in), 26 A3 (in), 27 VDD2 (power), 28 VSS2 (power), 29 A4 (in), 30 A5 (in), 31 A6 (in), 32 A7 (in), 33 A8 (in), 34 A9 (in), 35 A11 (in), 36 A12/NC (in), 37 CKE (in), 38 CLK (in), 39 UDQM (in), 41 VSS0 (power), 42 DQ8 (io), 43 VDDQ2 (power), 44 DQ9 (io), 45 DQ10 (io), 46 VSSQ2 (power), 47 DQ11 (io), 48 DQ12 (io), 49 VDDQ3 (power), 50 DQ13 (io), 51 DQ14 (io), 52 VSSQ3 (power), 53 DQ15 (io), 54 VSS1 (power)
2 alternate drawings of the same symbol

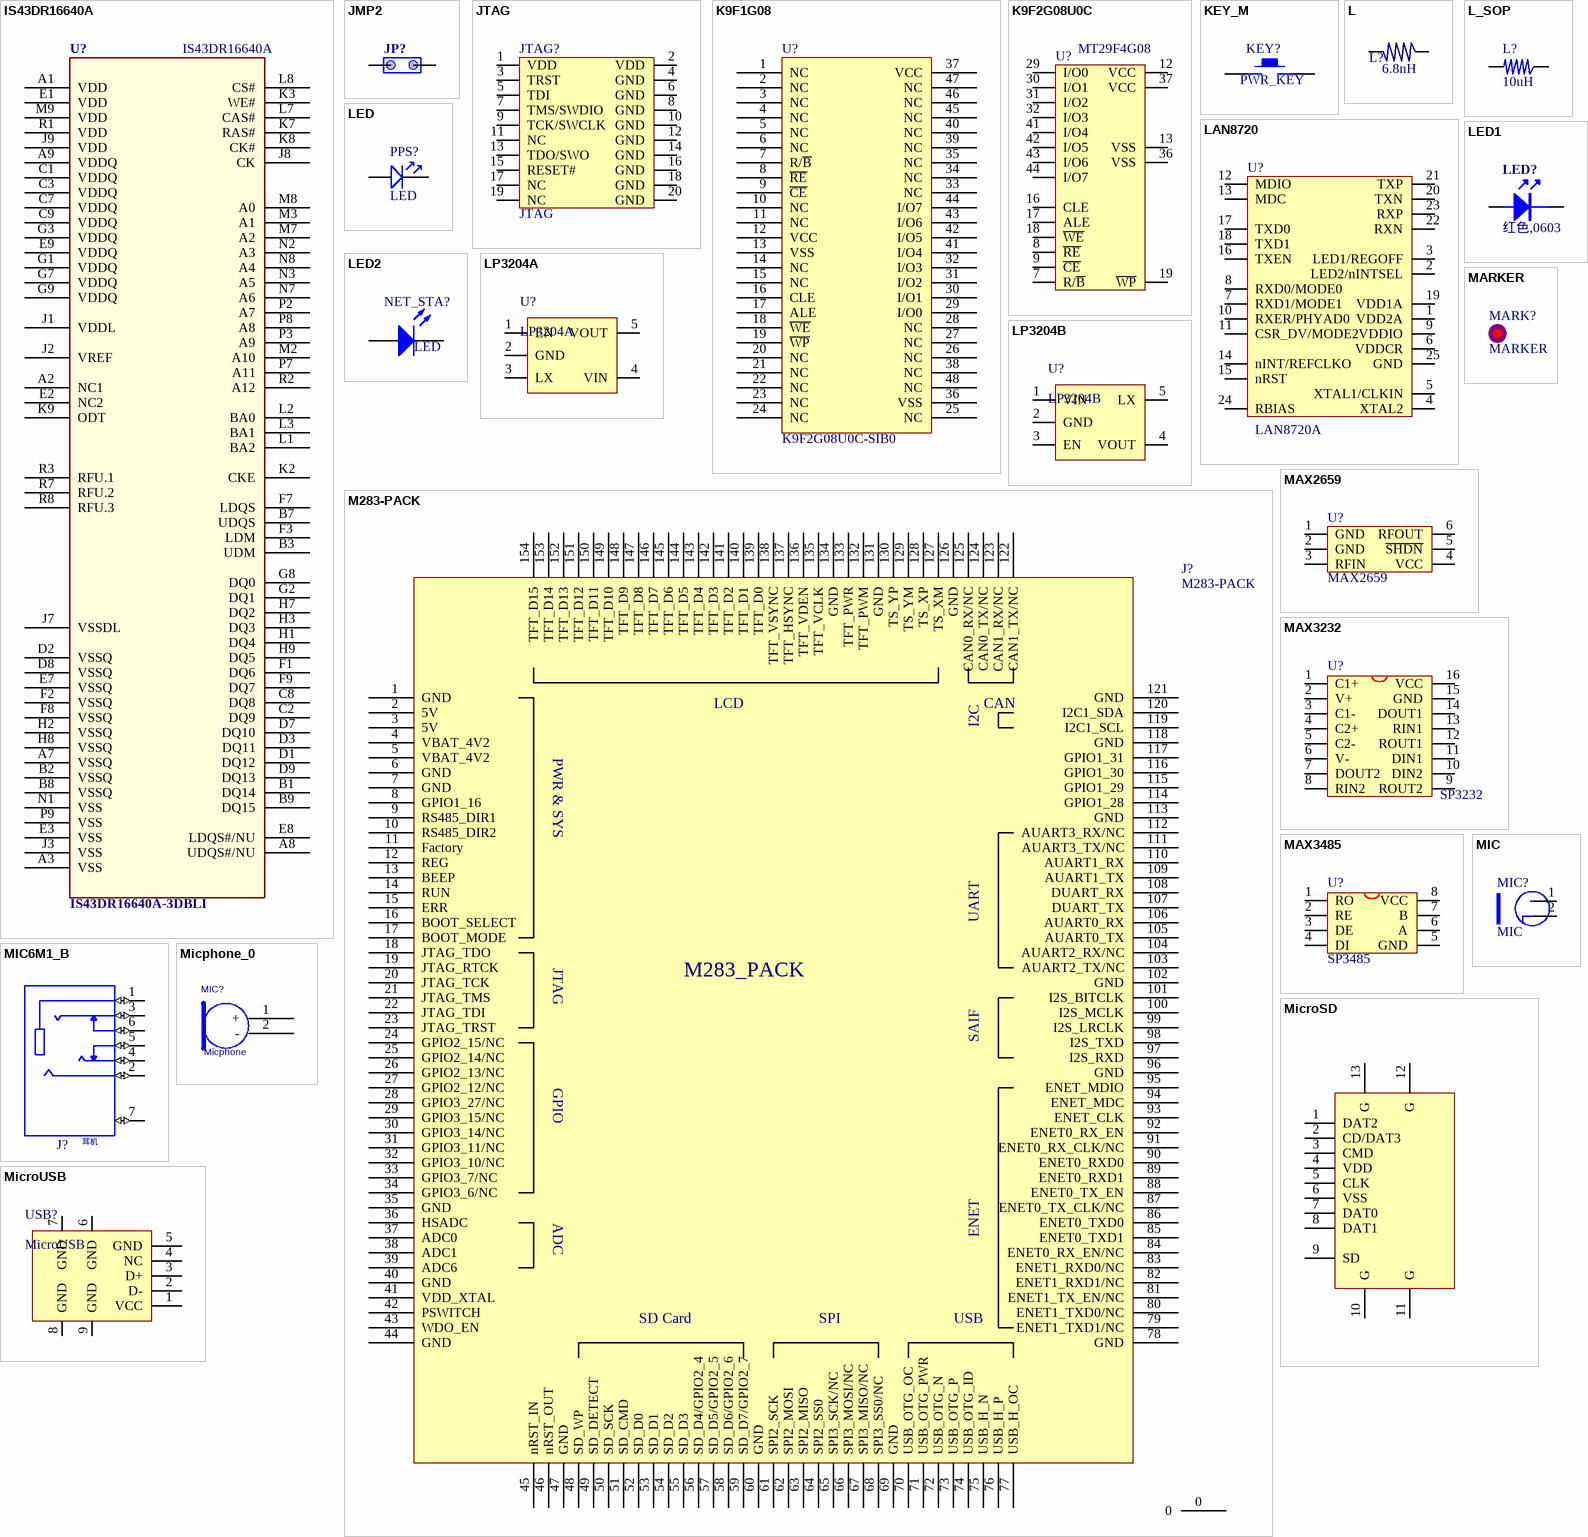
[diagram p3: symbols IS43DR16640A to MicroUSB]

## IS43DR16640A
designator U?  value IS43DR16640A-3DBLI
IS43DR16640A-3DBLI,FBGA-84,ISSI,RoHS; 物料代码: 1.05.06.0180; 名称: IC; 贴片和直插: SMT; PCB备注: 50; 封装: FBGA-84; 厂商: ISSI; RoHS: RoHS; 型号: IS43DR16640A-3DBLI; ComponentLink1Description: ErpDataInfo; ComponentLink1URL: http://erp.zlgmcu.com/ErpExt/ErpData/ListMateriel.aspx?pkey=1.05.06.0180
footprint IS43DR16640A/B
pins: A1 VDD, A2 NC1, A3 VSS (power), A7 VSSQ (power), A8 UDQS#/NU, A9 VDDQ, B1 DQ14, B2 VSSQ (power), B3 UDM, B7 UDQS, B8 VSSQ (power), B9 DQ15, C1 VDDQ, C2 DQ9, C3 VDDQ, C7 VDDQ, C8 DQ8, C9 VDDQ, D1 DQ12, D2 VSSQ (power), D3 DQ11, D7 DQ10, D8 VSSQ (power), D9 DQ13, E1 VDD, E2 NC2, E3 VSS (power), E7 VSSQ (power), E8 LDQS#/NU, E9 VDDQ, F1 DQ6, F2 VSSQ (power), F3 LDM, F7 LDQS, F8 VSSQ (power), F9 DQ7, G1 VDDQ, G2 DQ1, G3 VDDQ, G7 VDDQ, G8 DQ0, G9 VDDQ, H1 DQ4, H2 VSSQ (power), H3 DQ3, H7 DQ2, H8 VSSQ (power), H9 DQ5, J1 VDDL, J2 VREF, J3 VSS (power), J7 VSSDL (power), J8 CK, J9 VDD, K2 CKE, K3 WE#, K7 RAS#, K8 CK#, K9 ODT, L1 BA2, L2 BA0, L3 BA1, L7 CAS#, L8 CS#, M2 A10, M3 A1, M7 A2, M8 A0, M9 VDD, N1 VSS (power), N2 A3, N3 A5, N7 A6, N8 A4, P2 A7, P3 A9, P7 A11, P8 A8, P9 VSS (power), R1 VDD, R2 A12, R3 RFU.1, R7 RFU.2, R8 RFU.3

## JMP2
designator JP?, comment 120Ω_EN  (value not drawn)
footprint 2 (Footprint not found)
footprint SIP-2
pins: 1, 2
2 alternate drawings of the same symbol

## JTAG
designator JTAG?
footprint JTAG (ULINK_JTAG-20)
footprint JTAG_20
pins: 1 VDD, 2 VDD, 3 TRST, 4 GND, 5 TDI, 6 GND, 7 TMS/SWDIO, 8 GND, 9 TCK/SWCLK, 10 GND, 11 NC, 12 GND, 13 TDO/SWO, 14 GND, 15 RESET#, 16 GND, 17 NC, 18 GND, 19 NC, 20 GND

## K9F1G08
designator U?  value K9F2G08U0C-SIB0  (hidden comment: K9F1G08)
物料代码: 1.05.06.0181; 名称: IC; 规格型号: K9F2G08U0C-SIB0,TSOP-48,SAMSUNG,RoHS; 封装: TSOP-48; 厂商: SAMSUNG; 贴片和直插: SMT; PCB备注: 50; RoHS: RoHS; ComponentLink1Description: ErpDataInfo; ComponentLink1URL: http://erp.zlgmcu.com/ErpExt/ErpData/ListMateriel.aspx?pkey=1.05.06.0181
footprint SOP50P2000X120-48N
pins: 1 NC, 2 NC, 3 NC, 4 NC, 5 NC, 6 NC, 7 R/~{B}, 8 ~{RE}, 9 ~{CE}, 10 NC, 11 NC, 12 VCC, 13 VSS, 14 NC, 15 NC, 16 CLE, 17 ALE, 18 ~{WE}, 19 ~{WP}, 20 NC, 21 NC, 22 NC, 23 NC, 24 NC, 25 NC, 26 NC, 27 NC, 28 NC, 29 I/O0, 30 I/O1, 31 I/O2, 32 I/O3, 33 NC, 34 NC, 35 NC, 36 VSS, 37 VCC, 38 NC, 39 NC, 40 NC, 41 I/O4, 42 I/O5, 43 I/O6, 44 I/O7, 45 NC, 46 NC, 47 NC, 48 NC
2 alternate drawings of the same symbol

## K9F2G08U0C
designator U?, comment MT29F4G08
256MB NAND FLASH
footprint TSOP48
pins: 7 R/~{B}, 8 ~{RE}, 9 ~{CE}, 12 VCC, 13 VSS, 16 CLE, 17 ALE, 18 ~{WE}, 19 ~{WP}, 29 I/O0, 30 I/O1, 31 I/O2, 32 I/O3, 36 VSS, 37 VCC, 41 I/O4, 42 I/O5, 43 I/O6, 44 I/O7

## KEY_M
designator KEY?, comment PWR_KEY
footprint KEY_M (KEY_MID)
footprint KEY_2 (KEY?)
footprint KEY_SOP_BG (KEY?)
pins: 1, 2

## L
designator L?, comment 6.8nH
footprint L3A (L)
footprint L4.7
footprint L_USER (SELF_DEF)
footprint L10 (10mH)
footprint SMD7850
footprint 0805
footprint 1206
footprint L_SOPL (L_LARGE)
footprint L_CD43 (4mm*4mm)
footprint 0603P
footprint IND-SMD_L4.9-W4.4_MAPM0420F
footprint IND-SMD_L4.3-W4.0_GPSR0420 (0420封装电感使用)
footprint L1008
footprint L0603
pins: 1, 2

## L_SOP
designator L?, comment 10uH
footprint L_SOPL (L_LARGE)
footprint L_SOPS (L_4*4)
footprint L10 (10mH)
footprint L_SOP74 (7.4*7.4)
pins: 1, 2

## LAN8720
designator U?, comment LAN8720A
ETH PHY
footprint QFN24 (QFN, 24-Leads, Body 4.0x4.0mm (max), Pitch 0.50mm, IPC Medium Density)
pins: 1 VDD2A, 2 LED2/nINTSEL, 3 LED1/REGOFF, 4 XTAL2, 5 XTAL1/CLKIN, 6 VDDCR, 7 RXD1/MODE1, 8 RXD0/MODE0, 9 VDDIO, 10 RXER/PHYAD0, 11 CSR_DV/MODE2, 12 MDIO, 13 MDC, 14 nINT/REFCLKO, 15 nRST, 16 TXEN, 17 TXD0, 18 TXD1, 19 VDD1A, 20 TXN, 21 TXP, 22 RXN, 23 RXP, 24 RBIAS, 25 GND

## LED
designator PPS?
footprint SMDLED
footprint LED-DIP (PIN:2.54MM;H:5MM;)
pins: 1, 2

## LED1
designator LED?  value 红色,0603  (hidden comment: LED1)
红色,0603,0603,*,RoHS; 物料代码: 1.04.05.0008; 名称: 发光二极管; 封装: 0603; 设备封装名称: LED0603-RED; 贴片和直插: SMT; 器件优选方案: 优先选用; RoHS: RoHS; 型号: 红色,0603; ComponentLink1Description: ErpDataInfo; ComponentLink1URL: http://erp.zlgmcu.com/ErpExt/ErpData/ListMateriel.aspx?pkey=1.04.05.0008
footprint LED-0603
pins: 1, 2
2 alternate drawings of the same symbol

## LED2
designator NET_STA?, comment LED
Typical RED, GREEN, YELLOW, AMBER GaAs LED; Published: 8-Jun-2000; LatestRevisionDate: 17-Jul-2002; LatestRevisionNote: Re-released for DXP Platform.; PackageDocument: Feb-2002; PackageReference: 3.2X1.6X1.1; Publisher: Altium Limited
footprint SMDLED
simulation model LED2 (Diode)
pins: 1 A, 2 K

## LP3204A
designator U?
footprint SOT-23-5
pins: 1 EN, 2 GND, 3 LX, 4 VIN, 5 VOUT

## LP3204B
designator U?
footprint SOT-23-5
pins: 1 VIN, 2 GND, 3 EN, 4 VOUT, 5 LX

## M283-PACK
designator J?
M283
footprint M283-154 (Footprint not found)
pins: 0, 1 GND, 2 5V, 3 5V, 4 VBAT_4V2, 5 VBAT_4V2, 6 GND, 7 GND, 8 GPIO1_16, 9 RS485_DIR1, 10 RS485_DIR2, 11 Factory, 12 REG, 13 BEEP, 14 RUN, 15 ERR, 16 BOOT_SELECT, 17 BOOT_MODE, 18 JTAG_TDO, 19 JTAG_RTCK, 20 JTAG_TCK, 21 JTAG_TMS, 22 JTAG_TDI, 23 JTAG_TRST, 24 GPIO2_15/NC, 25 GPIO2_14/NC, 26 GPIO2_13/NC, 27 GPIO2_12/NC, 28 GPIO3_27/NC, 29 GPIO3_15/NC, 30 GPIO3_14/NC, 31 GPIO3_11/NC, 32 GPIO3_10/NC, 33 GPIO3_7/NC, 34 GPIO3_6/NC, 35 GND, 36 HSADC, 37 ADC0, 38 ADC1, 39 ADC6, 40 GND, 41 VDD_XTAL, 42 PSWITCH, 43 WDO_EN, 44 GND, 45 nRST_IN, 46 nRST_OUT, 47 GND, 48 SD_WP, 49 SD_DETECT, 50 SD_SCK, 51 SD_CMD, 52 SD_D0, 53 SD_D1, 54 SD_D2, 55 SD_D3, 56 SD_D4/GPIO2_4, 57 SD_D5/GPIO2_5, 58 SD_D6/GPIO2_6, 59 SD_D7/GPIO2_7, 60 GND, 61 SPI2_SCK, 62 SPI2_MOSI, 63 SPI2_MISO, 64 SPI2_SS0, 65 SPI3_SCK/NC, 66 SPI3_MOSI/NC, 67 SPI3_MISO/NC, 68 SPI3_SS0/NC, 69 GND, 70 USB_OTG_OC, 71 USB_OTG_PWR, 72 USB_OTG_N, 73 USB_OTG_P, 74 USB_OTG_ID, 75 USB_H_N, 76 USB_H_P, 77 USB_H_OC, 78 GND, 79 ENET1_TXD1/NC, 80 ENET1_TXD0/NC, 81 ENET1_TX_EN/NC, 82 ENET1_RXD1/NC, 83 ENET1_RXD0/NC, 84 ENET0_RX_EN/NC, 85 ENET0_TXD1, 86 ENET0_TXD0, 87 ENET0_TX_CLK/NC, 88 ENET0_TX_EN, 89 ENET0_RXD1, 90 ENET0_RXD0, 91 ENET0_RX_CLK/NC, 92 ENET0_RX_EN, 93 ENET_CLK, 94 ENET_MDC, 95 ENET_MDIO, 96 GND, 97 I2S_RXD, 98 I2S_TXD, 99 I2S_LRCLK, 100 I2S_MCLK, 101 I2S_BITCLK, 102 GND, 103 AUART2_TX/NC, 104 AUART2_RX/NC, 105 AUART0_TX, 106 AUART0_RX, 107 DUART_TX, 108 DUART_RX, 109 AUART1_TX, 110 AUART1_RX, 111 AUART3_TX/NC, 112 AUART3_RX/NC, 113 GND, 114 GPIO1_28, 115 GPIO1_29, 116 GPIO1_30, 117 GPIO1_31, 118 GND, 119 I2C1_SCL, 120 I2C1_SDA, 121 GND, 122 CAN1_TX/NC, 123 CAN1_RX/NC, 124 CAN0_TX/NC, 125 CAN0_RX/NC, 126 GND, 127 TS_XM, 128 TS_XP, 129 TS_YM, 130 TS_YP, 131 GND, 132 TFT_PWM, 133 TFT_PWR, 134 GND, 135 TFT_VCLK, 136 TFT_VDEN, 137 TFT_HSYNC, 138 TFT_VSYNC, 139 TFT_D0, 140 TFT_D1, 141 TFT_D2, 142 TFT_D3, 143 TFT_D4, 144 TFT_D5, 145 TFT_D6, 146 TFT_D7, 147 TFT_D8, 148 TFT_D9, 149 TFT_D10, 150 TFT_D11, 151 TFT_D12, 152 TFT_D13, 153 TFT_D14, 154 TFT_D15
text: LCD; CAN; I2C; PWR & SYS; UART; JTAG; M283_PACK; SAIF; GPIO; ADC; ENET; SD Card; SPI; USB

## MARKER
designator MARK?
footprint MARKER-C
footprint MARKER-S
pins: 0

## MAX2659
designator U?
GPS LNA
footprint UDFN (QFN, 6-Leads, Body 1.5x1.0mm (max), Pitch 0.50mm, IPC Medium Density)
pins: 1 GND, 2 GND, 3 RFIN, 4 VCC, 5 ~{SHDN}, 6 RFOUT

## MAX3232
designator U?, comment SP3232
footprint SOP16M
pins: 1 C1+, 2 V+, 3 C1-, 4 C2+, 5 C2-, 6 V-, 7 DOUT2, 8 RIN2, 9 ROUT2, 10 DIN2, 11 DIN1, 12 ROUT1, 13 RIN1, 14 DOUT1, 15 GND, 16 VCC

## MAX3485
designator U?, comment SP3485
footprint SOP-8 (SOP)
pins: 1 RO, 2 RE, 3 DE, 4 DI, 5 GND, 6 A, 7 B, 8 VCC

## MIC
designator MIC?
footprint MIC
pins: 1 VCC, 2 GND
1 alternate drawing of the same symbol

## MIC6M1_B
designator J?  DEVICE: 耳机  (hidden comment: MIC6M1_B)
PARTS: 1; LEVEL: STD; OriginalSymbolOrigin: (0,0); PKG_TYPE: VAF6-1406E; %208%%161%%192%%224%%195%%251%%179%%198%: 音视频连接器; CODE: 14160153; %195%%232%%202%%246%: 音视频连接器-3.5MM音频连接器-6PIN-弯母-SMT
footprint VAF6-1406EE
footprint AUDIO-SMD_PJ-316A-6A
pins: 1 P1 (io), 2 P2 (io), 3 P3 (io), 4 P4 (io), 5 P5 (io), 6 P6 (io), 7 M1 (io)

## Micphone_0
designator MIC?, comment Micphone
mypage: 13
footprint CAP(2.0,Ф4)
footprint MIC_600x270
pins: 1 +, 2 -

## MicroSD
designator CN?
MicroSD卡座
footprint MicroSD (TF卡)
pins: 1 DAT2, 2 CD/DAT3, 3 CMD, 4 VDD, 5 CLK, 6 VSS, 7 DAT0, 8 DAT1, 9 SD, 10 G, 11 G, 12 G, 13 G

## MicroUSB
designator USB?
MicroUSB母座
footprint MicroUSB
footprint MICRO-USB-SMD_MICRO-USB-A17
pins: 1 VCC, 2 D-, 3 D+, 4 NC, 5 GND, 6 GND, 7 GND, 8 GND, 9 GND

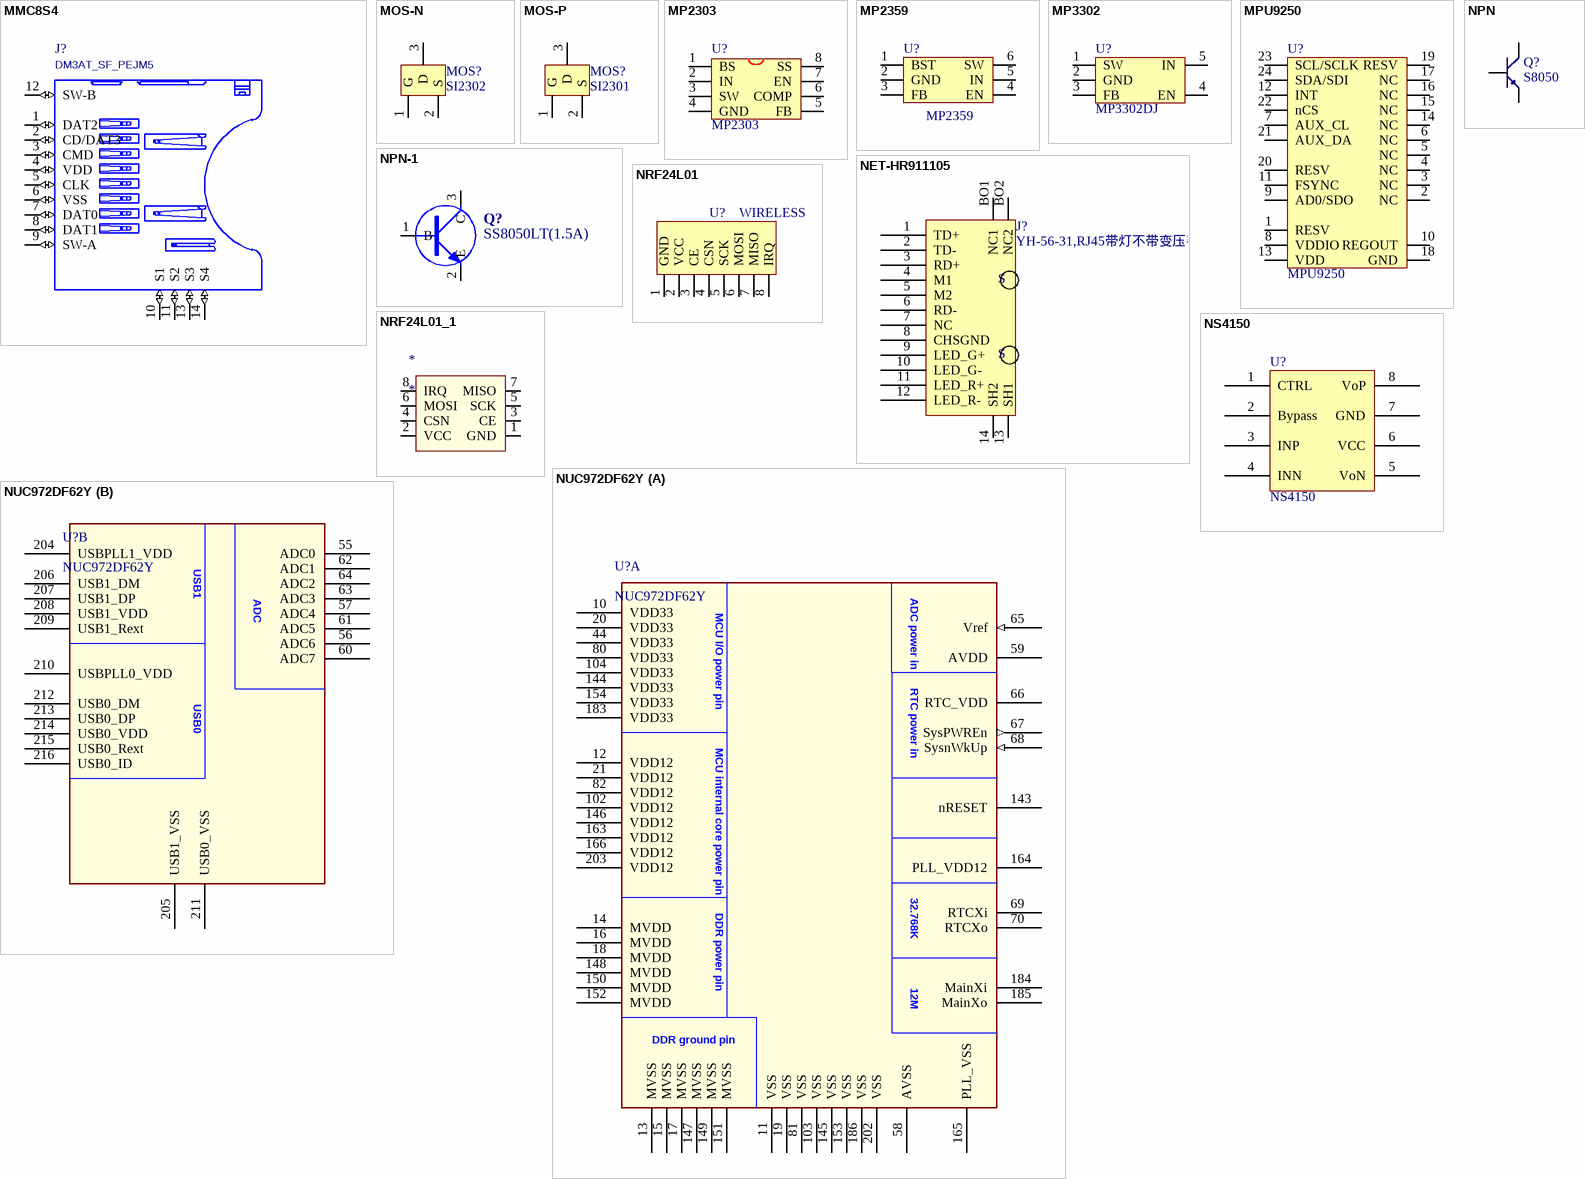
[diagram p4: symbols MMC8S4 to NUC972DF62Y]

## MMC8S4
designator J?  DEVICE: DM3AT_SF_PEJM5  (hidden comment: MMC8S4)
PARTS: 1; LEVEL: STD; PKG_TYPE: HSDC10-1614B; CODE: 1414G006; OriginalSymbolOrigin: (0,0); %208%%161%%192%%224%%195%%251%%179%%198%: 板卡座; COMPONENT_HIGH_MAX: 1.83MM; %195%%232%%202%%246%: 板卡座-弯母-10-PUSH-PUSH MICROSD-表贴PAD
footprint SD_CARD-Push (弹出式TF卡座子)
pins: 1 DAT2 (io), 2 CD/DAT3 (io), 3 CMD (io), 4 VDD (io), 5 CLK (io), 6 VSS (io), 7 DAT0 (io), 8 DAT1 (io), 9 SW-A (io), 10 S1 (io), 11 S2 (io), 12 SW-B (io), 13 S3 (io), 14 S4 (io)

## MOS-N
designator MOS?, comment SI2302
AP2306
footprint SO-G3/C2.5 (SOT-23; 3 Leads; Body 3.0 x 2.6 mm, inc. leads (LxW max))
pins: 1 G, 2 S, 3 D

## MOS-P
designator MOS?, comment SI2301
IRLML6401/SI2301
footprint SO-G3/C2.5 (SOT-23; 3 Leads; Body 3.0 x 2.6 mm, inc. leads (LxW max))
pins: 1 G, 2 S, 3 D

## MP2303
designator U?
DC DC Step Down IC
footprint SOP-8 (SOP)
pins: 1 BS, 2 IN, 3 SW, 4 GND, 5 FB, 6 COMP, 7 EN, 8 SS

## MP2359
designator U?
DC DC Step Down IC
footprint SOT-23-6
pins: 1 BST, 2 GND, 3 FB, 4 EN, 5 IN, 6 SW

## MP3302
designator U?, comment MP3302DJ
LCD背光IC
footprint SOT-23-5
pins: 1 SW, 2 GND, 3 FB, 4 EN, 5 IN

## MPU9250
designator U?
9轴运动处理传感器
footprint QFN24-t (QFN, 24-Leads, Body 3.0x3.0mm (max), Pitch 0.40mm,)
pins: 1 RESV, 2 NC, 3 NC, 4 NC, 5 NC, 6 NC, 7 AUX_CL, 8 VDDIO, 9 AD0/SDO, 10 REGOUT, 11 FSYNC, 12 INT, 13 VDD, 14 NC, 15 NC, 16 NC, 17 NC, 18 GND, 19 RESV, 20 RESV, 21 AUX_DA, 22 nCS, 23 SCL/SCLK, 24 SDA/SDI

## NET-HR911105
designator J?, comment value YH-56-31,RJ45带灯不带变压器  (hidden comment: HR911105C)
YH-56-31,RJ45带灯不带变压器; 物料代码: 1.10.05.0062; 名称: 网线插座; 贴片和直插: THT; 型号: YH-56-31,RJ45带灯不带变压器; ComponentLink1Description: ErpDataInfo; ComponentLink1URL: http://erp.zlgmcu.com/ErpExt/ErpData/ListMateriel.aspx?pkey=1.10.05.0062
footprint RJ45/LED
pins: 1 TD+, 2 TD-, 3 RD+, 4 M1, 5 M2, 6 RD-, 7 NC, 8 CHSGND, 9 LED_G+, 10 LED_G-, 11 LED_R+, 12 LED_R-, 13 SH1, 14 SH2, BO1 NC1, BO2 NC2
2 alternate drawings of the same symbol
text: S

## NPN
designator Q?, comment S8050
8050/BCW846/BCW847
footprint SOT-23R (SOT-23; 3 Leads; Body 3.0 x 2.5 mm, inc. leads (LxW max))
footprint NPN
pins: 1 E, 2 B, 3 C

## NPN-1
designator Q?  value SS8050LT(1.5A)  (hidden comment: NPN-1)
SS8050LT(1.5A),SOT-23,江苏长电,RoHS; 物料代码: 1.04.09.0001; 名称: 三极管; 设备封装名称: SOT-23_SS8050LT; 贴片和直插: SMT; 封装: SOT-23; 厂商: 江苏长电; RoHS: RoHS; 型号: SS8050LT(1.5A); ComponentLink1Description: ErpDataInfo; ComponentLink1URL: http://erp.zlgmcu.com/ErpExt/ErpData/ListMateriel.aspx?pkey=1.04.09.0001
footprint SOT-23
pins: 1 B, 2 E, 3 C
2 alternate drawings of the same symbol

## NRF24L01
designator U?, comment WIRELESS
footprint NRF24L01
pins: 1 GND, 2 VCC, 3 CE, 4 CSN, 5 SCK, 6 MOSI, 7 MISO, 8 IRQ

## NRF24L01_1
designator *
footprint NRF24L01
pins: 1 GND, 2 VCC, 3 CE, 4 CSN, 5 SCK, 6 MOSI, 7 MISO, 8 IRQ

## NS4150
designator U?
footprint SOP-8M
pins: 1 CTRL, 2 Bypass, 3 INP, 4 INN, 5 VoN, 6 VCC, 7 GND, 8 VoP

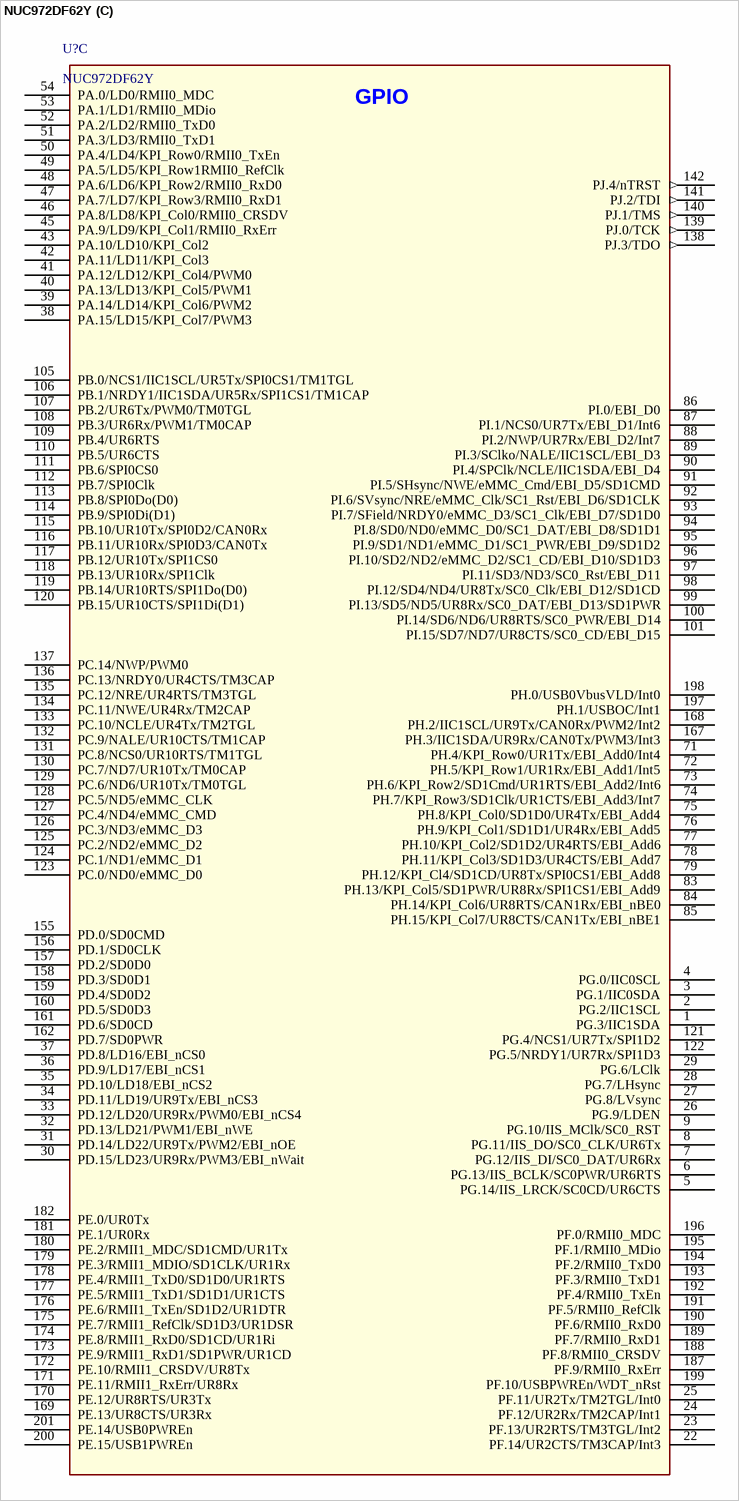
[diagram p5: symbol NUC972DF62Y]

## NUC972DF62Y
designator U?
NUVOTON-ARM9
footprint QFP216
part A pins: 10 VDD33 (power), 11 VSS (power), 12 VDD12 (power), 13 MVSS (power), 14 MVDD (power), 15 MVSS (power), 16 MVDD (power), 17 MVSS (power), 18 MVDD (power), 19 VSS (power), 20 VDD33 (power), 21 VDD12 (power), 44 VDD33 (power), 58 AVSS, 59 AVDD, 65 Vref (in), 66 RTC_VDD (power), 67 SysPWREn (out), 68 SysnWkUp (in), 69 RTCXi, 70 RTCXo, 80 VDD33 (power), 81 VSS (power), 82 VDD12 (power), 102 VDD12 (power), 103 VSS (power), 104 VDD33 (power), 143 nRESET, 144 VDD33 (power), 145 VSS (power), 146 VDD12 (power), 147 MVSS (power), 148 MVDD (power), 149 MVSS (power), 150 MVDD (power), 151 MVSS (power), 152 MVDD (power), 153 VSS (power), 154 VDD33 (power), 163 VDD12 (power), 164 PLL_VDD12 (power), 165 PLL_VSS (power), 166 VDD12 (power), 183 VDD33 (power), 184 MainXi, 185 MainXo, 186 VSS (power), 202 VSS (power), 203 VDD12 (power)
part B pins: 55 ADC0, 56 ADC6, 57 ADC4, 60 ADC7, 61 ADC5, 62 ADC1, 63 ADC3, 64 ADC2, 204 USBPLL1_VDD (power), 205 USB1_VSS (power), 206 USB1_DM, 207 USB1_DP, 208 USB1_VDD (power), 209 USB1_Rext, 210 USBPLL0_VDD (power), 211 USB0_VSS, 212 USB0_DM, 213 USB0_DP, 214 USB0_VDD (power), 215 USB0_Rext, 216 USB0_ID
part C pins: 1 PG.3/IIC1SDA, 2 PG.2/IIC1SCL, 3 PG.1/IIC0SDA, 4 PG.0/IIC0SCL, 5 PG.14/IIS_LRCK/SC0CD/UR6CTS, 6 PG.13/IIS_BCLK/SC0PWR/UR6RTS, 7 PG.12/IIS_DI/SC0_DAT/UR6Rx, 8 PG.11/IIS_DO/SC0_CLK/UR6Tx, 9 PG.10/IIS_MClk/SC0_RST, 22 PF.14/UR2CTS/TM3CAP/Int3, 23 PF.13/UR2RTS/TM3TGL/Int2, 24 PF.12/UR2Rx/TM2CAP/Int1, 25 PF.11/UR2Tx/TM2TGL/Int0, 26 PG.9/LDEN, 27 PG.8/LVsync, 28 PG.7/LHsync, 29 PG.6/LClk, 30 PD.15/LD23/UR9Rx/PWM3/EBI_nWait, 31 PD.14/LD22/UR9Tx/PWM2/EBI_nOE, 32 PD.13/LD21/PWM1/EBI_nWE, 33 PD.12/LD20/UR9Rx/PWM0/EBI_nCS4, 34 PD.11/LD19/UR9Tx/EBI_nCS3, 35 PD.10/LD18/EBI_nCS2, 36 PD.9/LD17/EBI_nCS1, 37 PD.8/LD16/EBI_nCS0, 38 PA.15/LD15/KPI_Col7/PWM3, 39 PA.14/LD14/KPI_Col6/PWM2, 40 PA.13/LD13/KPI_Col5/PWM1, 41 PA.12/LD12/KPI_Col4/PWM0, 42 PA.11/LD11/KPI_Col3, 43 PA.10/LD10/KPI_Col2, 45 PA.9/LD9/KPI_Col1/RMII0_RxErr, 46 PA.8/LD8/KPI_Col0/RMII0_CRSDV, 47 PA.7/LD7/KPI_Row3/RMII0_RxD1, 48 PA.6/LD6/KPI_Row2/RMII0_RxD0, 49 PA.5/LD5/KPI_Row1RMII0_RefClk, 50 PA.4/LD4/KPI_Row0/RMII0_TxEn, 51 PA.3/LD3/RMII0_TxD1, 52 PA.2/LD2/RMII0_TxD0, 53 PA.1/LD1/RMII0_MDio, 54 PA.0/LD0/RMII0_MDC, 71 PH.4/KPI_Row0/UR1Tx/EBI_Add0/Int4, 72 PH.5/KPI_Row1/UR1Rx/EBI_Add1/Int5, 73 PH.6/KPI_Row2/SD1Cmd/UR1RTS/EBI_Add2/Int6, 74 PH.7/KPI_Row3/SD1Clk/UR1CTS/EBI_Add3/Int7, 75 PH.8/KPI_Col0/SD1D0/UR4Tx/EBI_Add4, 76 PH.9/KPI_Col1/SD1D1/UR4Rx/EBI_Add5, 77 PH.10/KPI_Col2/SD1D2/UR4RTS/EBI_Add6, 78 PH.11/KPI_Col3/SD1D3/UR4CTS/EBI_Add7, 79 PH.12/KPI_Cl4/SD1CD/UR8Tx/SPI0CS1/EBI_Add8, 83 PH.13/KPI_Col5/SD1PWR/UR8Rx/SPI1CS1/EBI_Add9, 84 PH.14/KPI_Col6/UR8RTS/CAN1Rx/EBI_nBE0, 85 PH.15/KPI_Col7/UR8CTS/CAN1Tx/EBI_nBE1, 86 PI.0/EBI_D0, 87 PI.1/NCS0/UR7Tx/EBI_D1/Int6, 88 PI.2/NWP/UR7Rx/EBI_D2/Int7, 89 PI.3/SClko/NALE/IIC1SCL/EBI_D3, 90 PI.4/SPClk/NCLE/IIC1SDA/EBI_D4, 91 PI.5/SHsync/NWE/eMMC_Cmd/EBI_D5/SD1CMD, 92 PI.6/SVsync/NRE/eMMC_Clk/SC1_Rst/EBI_D6/SD1CLK, 93 PI.7/SField/NRDY0/eMMC_D3/SC1_Clk/EBI_D7/SD1D0, 94 PI.8/SD0/ND0/eMMC_D0/SC1_DAT/EBI_D8/SD1D1, 95 PI.9/SD1/ND1/eMMC_D1/SC1_PWR/EBI_D9/SD1D2, 96 PI.10/SD2/ND2/eMMC_D2/SC1_CD/EBI_D10/SD1D3, 97 PI.11/SD3/ND3/SC0_Rst/EBI_D11, 98 PI.12/SD4/ND4/UR8Tx/SC0_Clk/EBI_D12/SD1CD, 99 PI.13/SD5/ND5/UR8Rx/SC0_DAT/EBI_D13/SD1PWR, 100 PI.14/SD6/ND6/UR8RTS/SC0_PWR/EBI_D14, 101 PI.15/SD7/ND7/UR8CTS/SC0_CD/EBI_D15, 105 PB.0/NCS1/IIC1SCL/UR5Tx/SPI0CS1/TM1TGL, 106 PB.1/NRDY1/IIC1SDA/UR5Rx/SPI1CS1/TM1CAP, 107 PB.2/UR6Tx/PWM0/TM0TGL, 108 PB.3/UR6Rx/PWM1/TM0CAP, 109 PB.4/UR6RTS, 110 PB.5/UR6CTS, 111 PB.6/SPI0CS0, 112 PB.7/SPI0Clk, 113 PB.8/SPI0Do(D0), 114 PB.9/SPI0Di(D1), 115 PB.10/UR10Tx/SPI0D2/CAN0Rx, 116 PB.11/UR10Rx/SPI0D3/CAN0Tx, 117 PB.12/UR10Tx/SPI1CS0, 118 PB.13/UR10Rx/SPI1Clk, 119 PB.14/UR10RTS/SPI1Do(D0), 120 PB.15/UR10CTS/SPI1Di(D1), 121 PG.4/NCS1/UR7Tx/SPI1D2, 122 PG.5/NRDY1/UR7Rx/SPI1D3, 123 PC.0/ND0/eMMC_D0, 124 PC.1/ND1/eMMC_D1, 125 PC.2/ND2/eMMC_D2, 126 PC.3/ND3/eMMC_D3, 127 PC.4/ND4/eMMC_CMD, 128 PC.5/ND5/eMMC_CLK, 129 PC.6/ND6/UR10Tx/TM0TGL, 130 PC.7/ND7/UR10Tx/TM0CAP, 131 PC.8/NCS0/UR10RTS/TM1TGL, 132 PC.9/NALE/UR10CTS/TM1CAP, 133 PC.10/NCLE/UR4Tx/TM2TGL, 134 PC.11/NWE/UR4Rx/TM2CAP, 135 PC.12/NRE/UR4RTS/TM3TGL, 136 PC.13/NRDY0/UR4CTS/TM3CAP, 137 PC.14/NWP/PWM0, 138 PJ.3/TDO (out), 139 PJ.0/TCK (out), 140 PJ.1/TMS (out), 141 PJ.2/TDI (out), 142 PJ.4/nTRST (out), 155 PD.0/SD0CMD, 156 PD.1/SD0CLK, 157 PD.2/SD0D0, 158 PD.3/SD0D1, 159 PD.4/SD0D2, 160 PD.5/SD0D3, 161 PD.6/SD0CD, 162 PD.7/SD0PWR, 167 PH.3/IIC1SDA/UR9Rx/CAN0Tx/PWM3/Int3, 168 PH.2/IIC1SCL/UR9Tx/CAN0Rx/PWM2/Int2, 169 PE.13/UR8CTS/UR3Rx, 170 PE.12/UR8RTS/UR3Tx, 171 PE.11/RMII1_RxErr/UR8Rx, 172 PE.10/RMII1_CRSDV/UR8Tx, 173 PE.9/RMII1_RxD1/SD1PWR/UR1CD, 174 PE.8/RMII1_RxD0/SD1CD/UR1Ri, 175 PE.7/RMII1_RefClk/SD1D3/UR1DSR, 176 PE.6/RMII1_TxEn/SD1D2/UR1DTR, 177 PE.5/RMII1_TxD1/SD1D1/UR1CTS, 178 PE.4/RMII1_TxD0/SD1D0/UR1RTS, 179 PE.3/RMII1_MDIO/SD1CLK/UR1Rx, 180 PE.2/RMII1_MDC/SD1CMD/UR1Tx, 181 PE.1/UR0Rx, 182 PE.0/UR0Tx, 187 PF.9/RMII0_RxErr, 188 PF.8/RMII0_CRSDV, 189 PF.7/RMII0_RxD1, 190 PF.6/RMII0_RxD0, 191 PF.5/RMII0_RefClk, 192 PF.4/RMII0_TxEn, 193 PF.3/RMII0_TxD1, 194 PF.2/RMII0_TxD0, 195 PF.1/RMII0_MDio, 196 PF.0/RMII0_MDC, 197 PH.1/USBOC/Int1, 198 PH.0/USB0VbusVLD/Int0, 199 PF.10/USBPWREn/WDT_nRst, 200 PE.15/USB1PWREn, 201 PE.14/USB0PWREn
part A text: ADC power in; MCU I/O power pin; RTC power in; MCU internal core power pin; 32.768K; DDR power pin; 12M; DDR ground pin
part B text: USB1; ADC; USB0
part C text: GPIO

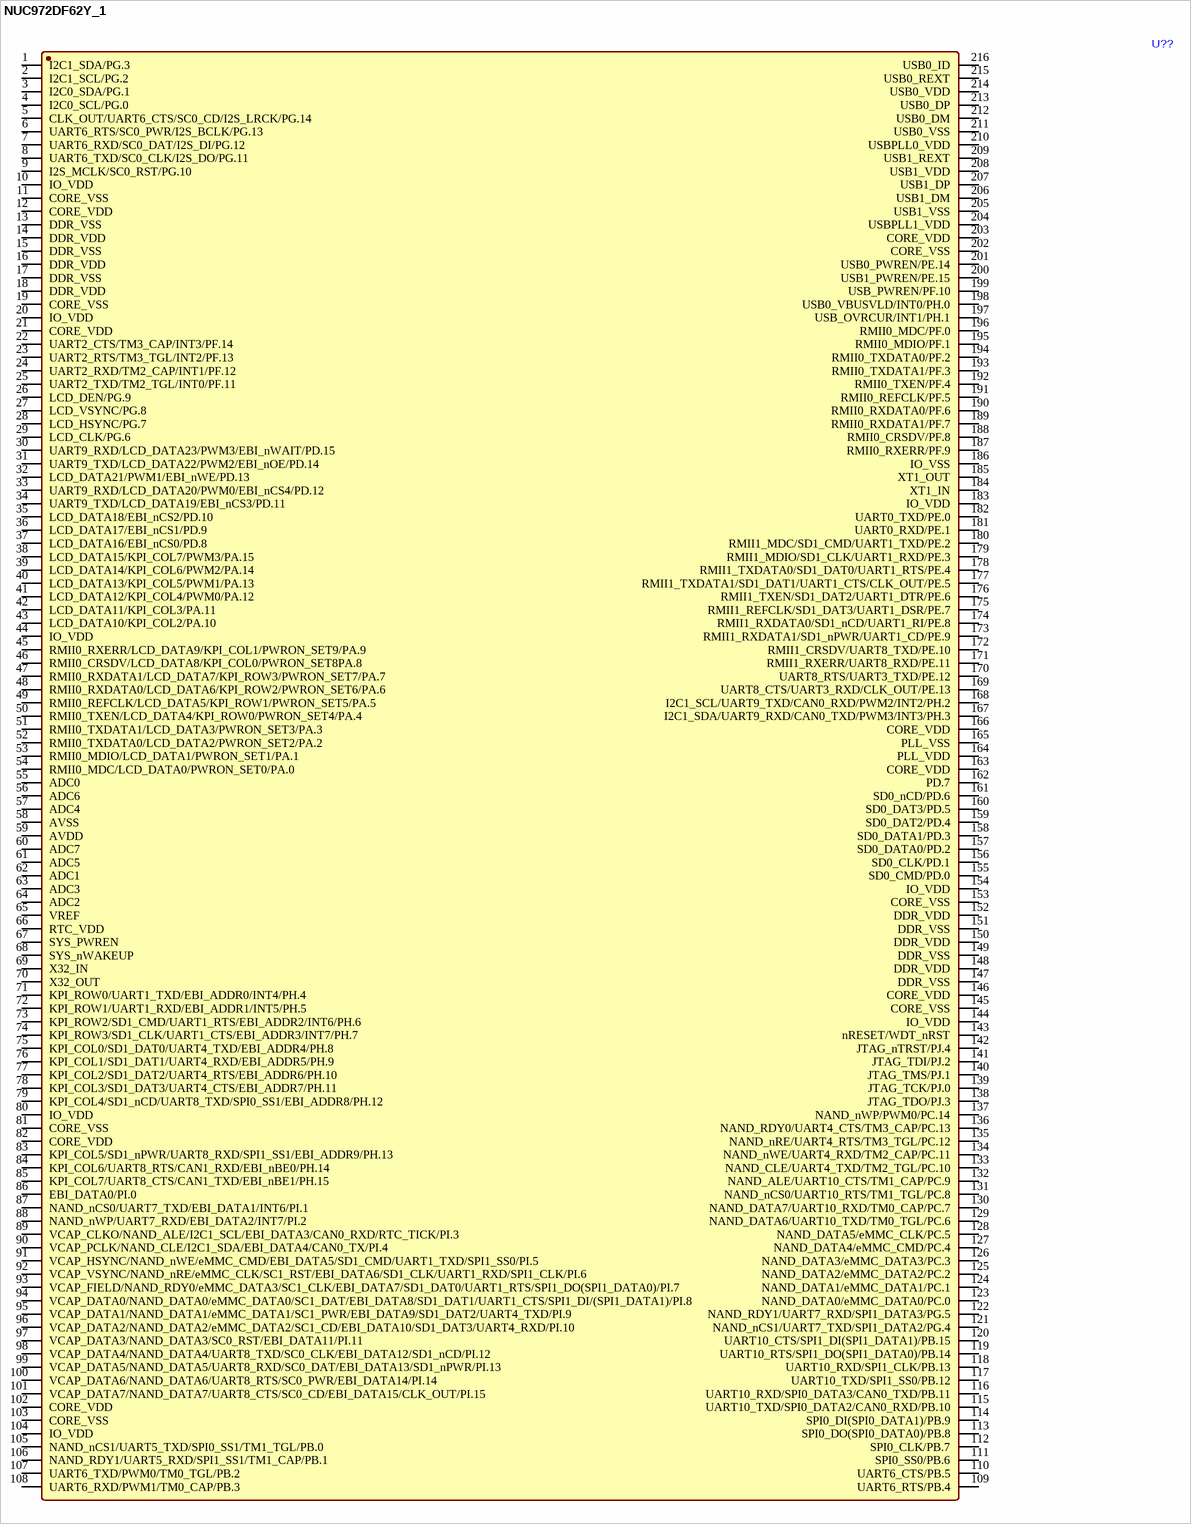
[diagram p6: symbol NUC972DF62Y_1]

## NUC972DF62Y_1
designator U??
footprint LQFP-216_L26.0-W26.0-P0.40-BL
pins: 1 I2C1_SDA/PG.3, 2 I2C1_SCL/PG.2, 3 I2C0_SDA/PG.1, 4 I2C0_SCL/PG.0, 5 CLK_OUT/UART6_CTS/SC0_CD/I2S_LRCK/PG.14, 6 UART6_RTS/SC0_PWR/I2S_BCLK/PG.13, 7 UART6_RXD/SC0_DAT/I2S_DI/PG.12, 8 UART6_TXD/SC0_CLK/I2S_DO/PG.11, 9 I2S_MCLK/SC0_RST/PG.10, 10 IO_VDD, 11 CORE_VSS, 12 CORE_VDD, 13 DDR_VSS, 14 DDR_VDD, 15 DDR_VSS, 16 DDR_VDD, 17 DDR_VSS, 18 DDR_VDD, 19 CORE_VSS, 20 IO_VDD, 21 CORE_VDD, 22 UART2_CTS/TM3_CAP/INT3/PF.14, 23 UART2_RTS/TM3_TGL/INT2/PF.13, 24 UART2_RXD/TM2_CAP/INT1/PF.12, 25 UART2_TXD/TM2_TGL/INT0/PF.11, 26 LCD_DEN/PG.9, 27 LCD_VSYNC/PG.8, 28 LCD_HSYNC/PG.7, 29 LCD_CLK/PG.6, 30 UART9_RXD/LCD_DATA23/PWM3/EBI_nWAIT/PD.15, 31 UART9_TXD/LCD_DATA22/PWM2/EBI_nOE/PD.14, 32 LCD_DATA21/PWM1/EBI_nWE/PD.13, 33 UART9_RXD/LCD_DATA20/PWM0/EBI_nCS4/PD.12, 34 UART9_TXD/LCD_DATA19/EBI_nCS3/PD.11, 35 LCD_DATA18/EBI_nCS2/PD.10, 36 LCD_DATA17/EBI_nCS1/PD.9, 37 LCD_DATA16/EBI_nCS0/PD.8, 38 LCD_DATA15/KPI_COL7/PWM3/PA.15, 39 LCD_DATA14/KPI_COL6/PWM2/PA.14, 40 LCD_DATA13/KPI_COL5/PWM1/PA.13, 41 LCD_DATA12/KPI_COL4/PWM0/PA.12, 42 LCD_DATA11/KPI_COL3/PA.11, 43 LCD_DATA10/KPI_COL2/PA.10, 44 IO_VDD, 45 RMII0_RXERR/LCD_DATA9/KPI_COL1/PWRON_SET9/PA.9, 46 RMII0_CRSDV/LCD_DATA8/KPI_COL0/PWRON_SET8PA.8, 47 RMII0_RXDATA1/LCD_DATA7/KPI_ROW3/PWRON_SET7/PA.7, 48 RMII0_RXDATA0/LCD_DATA6/KPI_ROW2/PWRON_SET6/PA.6, 49 RMII0_REFCLK/LCD_DATA5/KPI_ROW1/PWRON_SET5/PA.5, 50 RMII0_TXEN/LCD_DATA4/KPI_ROW0/PWRON_SET4/PA.4, 51 RMII0_TXDATA1/LCD_DATA3/PWRON_SET3/PA.3, 52 RMII0_TXDATA0/LCD_DATA2/PWRON_SET2/PA.2, 53 RMII0_MDIO/LCD_DATA1/PWRON_SET1/PA.1, 54 RMII0_MDC/LCD_DATA0/PWRON_SET0/PA.0, 55 ADC0, 56 ADC6, 57 ADC4, 58 AVSS, 59 AVDD, 60 ADC7, 61 ADC5, 62 ADC1, 63 ADC3, 64 ADC2, 65 VREF, 66 RTC_VDD, 67 SYS_PWREN, 68 SYS_nWAKEUP, 69 X32_IN, 70 X32_OUT, 71 KPI_ROW0/UART1_TXD/EBI_ADDR0/INT4/PH.4, 72 KPI_ROW1/UART1_RXD/EBI_ADDR1/INT5/PH.5, 73 KPI_ROW2/SD1_CMD/UART1_RTS/EBI_ADDR2/INT6/PH.6, 74 KPI_ROW3/SD1_CLK/UART1_CTS/EBI_ADDR3/INT7/PH.7, 75 KPI_COL0/SD1_DAT0/UART4_TXD/EBI_ADDR4/PH.8, 76 KPI_COL1/SD1_DAT1/UART4_RXD/EBI_ADDR5/PH.9, 77 KPI_COL2/SD1_DAT2/UART4_RTS/EBI_ADDR6/PH.10, 78 KPI_COL3/SD1_DAT3/UART4_CTS/EBI_ADDR7/PH.11, 79 KPI_COL4/SD1_nCD/UART8_TXD/SPI0_SS1/EBI_ADDR8/PH.12, 80 IO_VDD, 81 CORE_VSS, 82 CORE_VDD, 83 KPI_COL5/SD1_nPWR/UART8_RXD/SPI1_SS1/EBI_ADDR9/PH.13, 84 KPI_COL6/UART8_RTS/CAN1_RXD/EBI_nBE0/PH.14, 85 KPI_COL7/UART8_CTS/CAN1_TXD/EBI_nBE1/PH.15, 86 EBI_DATA0/PI.0, 87 NAND_nCS0/UART7_TXD/EBI_DATA1/INT6/PI.1, 88 NAND_nWP/UART7_RXD/EBI_DATA2/INT7/PI.2, 89 VCAP_CLKO/NAND_ALE/I2C1_SCL/EBI_DATA3/CAN0_RXD/RTC_TICK/PI.3, 90 VCAP_PCLK/NAND_CLE/I2C1_SDA/EBI_DATA4/CAN0_TX/PI.4, 91 VCAP_HSYNC/NAND_nWE/eMMC_CMD/EBI_DATA5/SD1_CMD/UART1_TXD/SPI1_SS0/PI.5, 92 VCAP_VSYNC/NAND_nRE/eMMC_CLK/SC1_RST/EBI_DATA6/SD1_CLK/UART1_RXD/SPI1_CLK/PI.6, 93 VCAP_FIELD/NAND_RDY0/eMMC_DATA3/SC1_CLK/EBI_DATA7/SD1_DAT0/UART1_RTS/SPI1_DO(SPI1_DATA0)/PI.7, 94 VCAP_DATA0/NAND_DATA0/eMMC_DATA0/SC1_DAT/EBI_DATA8/SD1_DAT1/UART1_CTS/SPI1_DI/(SPI1_DATA1)/PI.8, 95 VCAP_DATA1/NAND_DATA1/eMMC_DATA1/SC1_PWR/EBI_DATA9/SD1_DAT2/UART4_TXD/PI.9, 96 VCAP_DATA2/NAND_DATA2/eMMC_DATA2/SC1_CD/EBI_DATA10/SD1_DAT3/UART4_RXD/PI.10, 97 VCAP_DATA3/NAND_DATA3/SC0_RST/EBI_DATA11/PI.11, 98 VCAP_DATA4/NAND_DATA4/UART8_TXD/SC0_CLK/EBI_DATA12/SD1_nCD/PI.12, 99 VCAP_DATA5/NAND_DATA5/UART8_RXD/SC0_DAT/EBI_DATA13/SD1_nPWR/PI.13, 100 VCAP_DATA6/NAND_DATA6/UART8_RTS/SC0_PWR/EBI_DATA14/PI.14, 101 VCAP_DATA7/NAND_DATA7/UART8_CTS/SC0_CD/EBI_DATA15/CLK_OUT/PI.15, 102 CORE_VDD, 103 CORE_VSS, 104 IO_VDD, 105 NAND_nCS1/UART5_TXD/SPI0_SS1/TM1_TGL/PB.0, 106 NAND_RDY1/UART5_RXD/SPI1_SS1/TM1_CAP/PB.1, 107 UART6_TXD/PWM0/TM0_TGL/PB.2, 108 UART6_RXD/PWM1/TM0_CAP/PB.3, 109 UART6_RTS/PB.4, 110 UART6_CTS/PB.5, 111 SPI0_SS0/PB.6, 112 SPI0_CLK/PB.7, 113 SPI0_DO(SPI0_DATA0)/PB.8, 114 SPI0_DI(SPI0_DATA1)/PB.9, 115 UART10_TXD/SPI0_DATA2/CAN0_RXD/PB.10, 116 UART10_RXD/SPI0_DATA3/CAN0_TXD/PB.11, 117 UART10_TXD/SPI1_SS0/PB.12, 118 UART10_RXD/SPI1_CLK/PB.13, 119 UART10_RTS/SPI1_DO(SPI1_DATA0)/PB.14, 120 UART10_CTS/SPI1_DI(SPI1_DATA1)/PB.15, 121 NAND_nCS1/UART7_TXD/SPI1_DATA2/PG.4, 122 NAND_RDY1/UART7_RXD/SPI1_DATA3/PG.5, 123 NAND_DATA0/eMMC_DATA0/PC.0, 124 NAND_DATA1/eMMC_DATA1/PC.1, 125 NAND_DATA2/eMMC_DATA2/PC.2, 126 NAND_DATA3/eMMC_DATA3/PC.3, 127 NAND_DATA4/eMMC_CMD/PC.4, 128 NAND_DATA5/eMMC_CLK/PC.5, 129 NAND_DATA6/UART10_TXD/TM0_TGL/PC.6, 130 NAND_DATA7/UART10_RXD/TM0_CAP/PC.7, 131 NAND_nCS0/UART10_RTS/TM1_TGL/PC.8, 132 NAND_ALE/UART10_CTS/TM1_CAP/PC.9, 133 NAND_CLE/UART4_TXD/TM2_TGL/PC.10, 134 NAND_nWE/UART4_RXD/TM2_CAP/PC.11, 135 NAND_nRE/UART4_RTS/TM3_TGL/PC.12, 136 NAND_RDY0/UART4_CTS/TM3_CAP/PC.13, 137 NAND_nWP/PWM0/PC.14, 138 JTAG_TDO/PJ.3, 139 JTAG_TCK/PJ.0, 140 JTAG_TMS/PJ.1, 141 JTAG_TDI/PJ.2, 142 JTAG_nTRST/PJ.4, 143 nRESET/WDT_nRST, 144 IO_VDD, 145 CORE_VSS, 146 CORE_VDD, 147 DDR_VSS, 148 DDR_VDD, 149 DDR_VSS, 150 DDR_VDD, 151 DDR_VSS, 152 DDR_VDD, 153 CORE_VSS, 154 IO_VDD, 155 SD0_CMD/PD.0, 156 SD0_CLK/PD.1, 157 SD0_DATA0/PD.2, 158 SD0_DATA1/PD.3, 159 SD0_DAT2/PD.4, 160 SD0_DAT3/PD.5, 161 SD0_nCD/PD.6, 162 PD.7, 163 CORE_VDD, 164 PLL_VDD, 165 PLL_VSS, 166 CORE_VDD, 167 I2C1_SDA/UART9_RXD/CAN0_TXD/PWM3/INT3/PH.3, 168 I2C1_SCL/UART9_TXD/CAN0_RXD/PWM2/INT2/PH.2, 169 UART8_CTS/UART3_RXD/CLK_OUT/PE.13, 170 UART8_RTS/UART3_TXD/PE.12, 171 RMII1_RXERR/UART8_RXD/PE.11, 172 RMII1_CRSDV/UART8_TXD/PE.10, 173 RMII1_RXDATA1/SD1_nPWR/UART1_CD/PE.9, 174 RMII1_RXDATA0/SD1_nCD/UART1_RI/PE.8, 175 RMII1_REFCLK/SD1_DAT3/UART1_DSR/PE.7, 176 RMII1_TXEN/SD1_DAT2/UART1_DTR/PE.6, 177 RMII1_TXDATA1/SD1_DAT1/UART1_CTS/CLK_OUT/PE.5, 178 RMII1_TXDATA0/SD1_DAT0/UART1_RTS/PE.4, 179 RMII1_MDIO/SD1_CLK/UART1_RXD/PE.3, 180 RMII1_MDC/SD1_CMD/UART1_TXD/PE.2, 181 UART0_RXD/PE.1, 182 UART0_TXD/PE.0, 183 IO_VDD, 184 XT1_IN, 185 XT1_OUT, 186 IO_VSS, 187 RMII0_RXERR/PF.9, 188 RMII0_CRSDV/PF.8, 189 RMII0_RXDATA1/PF.7, 190 RMII0_RXDATA0/PF.6, 191 RMII0_REFCLK/PF.5, 192 RMII0_TXEN/PF.4, 193 RMII0_TXDATA1/PF.3, 194 RMII0_TXDATA0/PF.2, 195 RMII0_MDIO/PF.1, 196 RMII0_MDC/PF.0, 197 USB_OVRCUR/INT1/PH.1, 198 USB0_VBUSVLD/INT0/PH.0, 199 USB_PWREN/PF.10, 200 USB1_PWREN/PE.15, 201 USB0_PWREN/PE.14, 202 CORE_VSS, 203 CORE_VDD, 204 USBPLL1_VDD, 205 USB1_VSS, 206 USB1_DM, 207 USB1_DP, 208 USB1_VDD, 209 USB1_REXT, 210 USBPLL0_VDD, 211 USB0_VSS, 212 USB0_DM, 213 USB0_DP, 214 USB0_VDD, 215 USB0_REXT, 216 USB0_ID

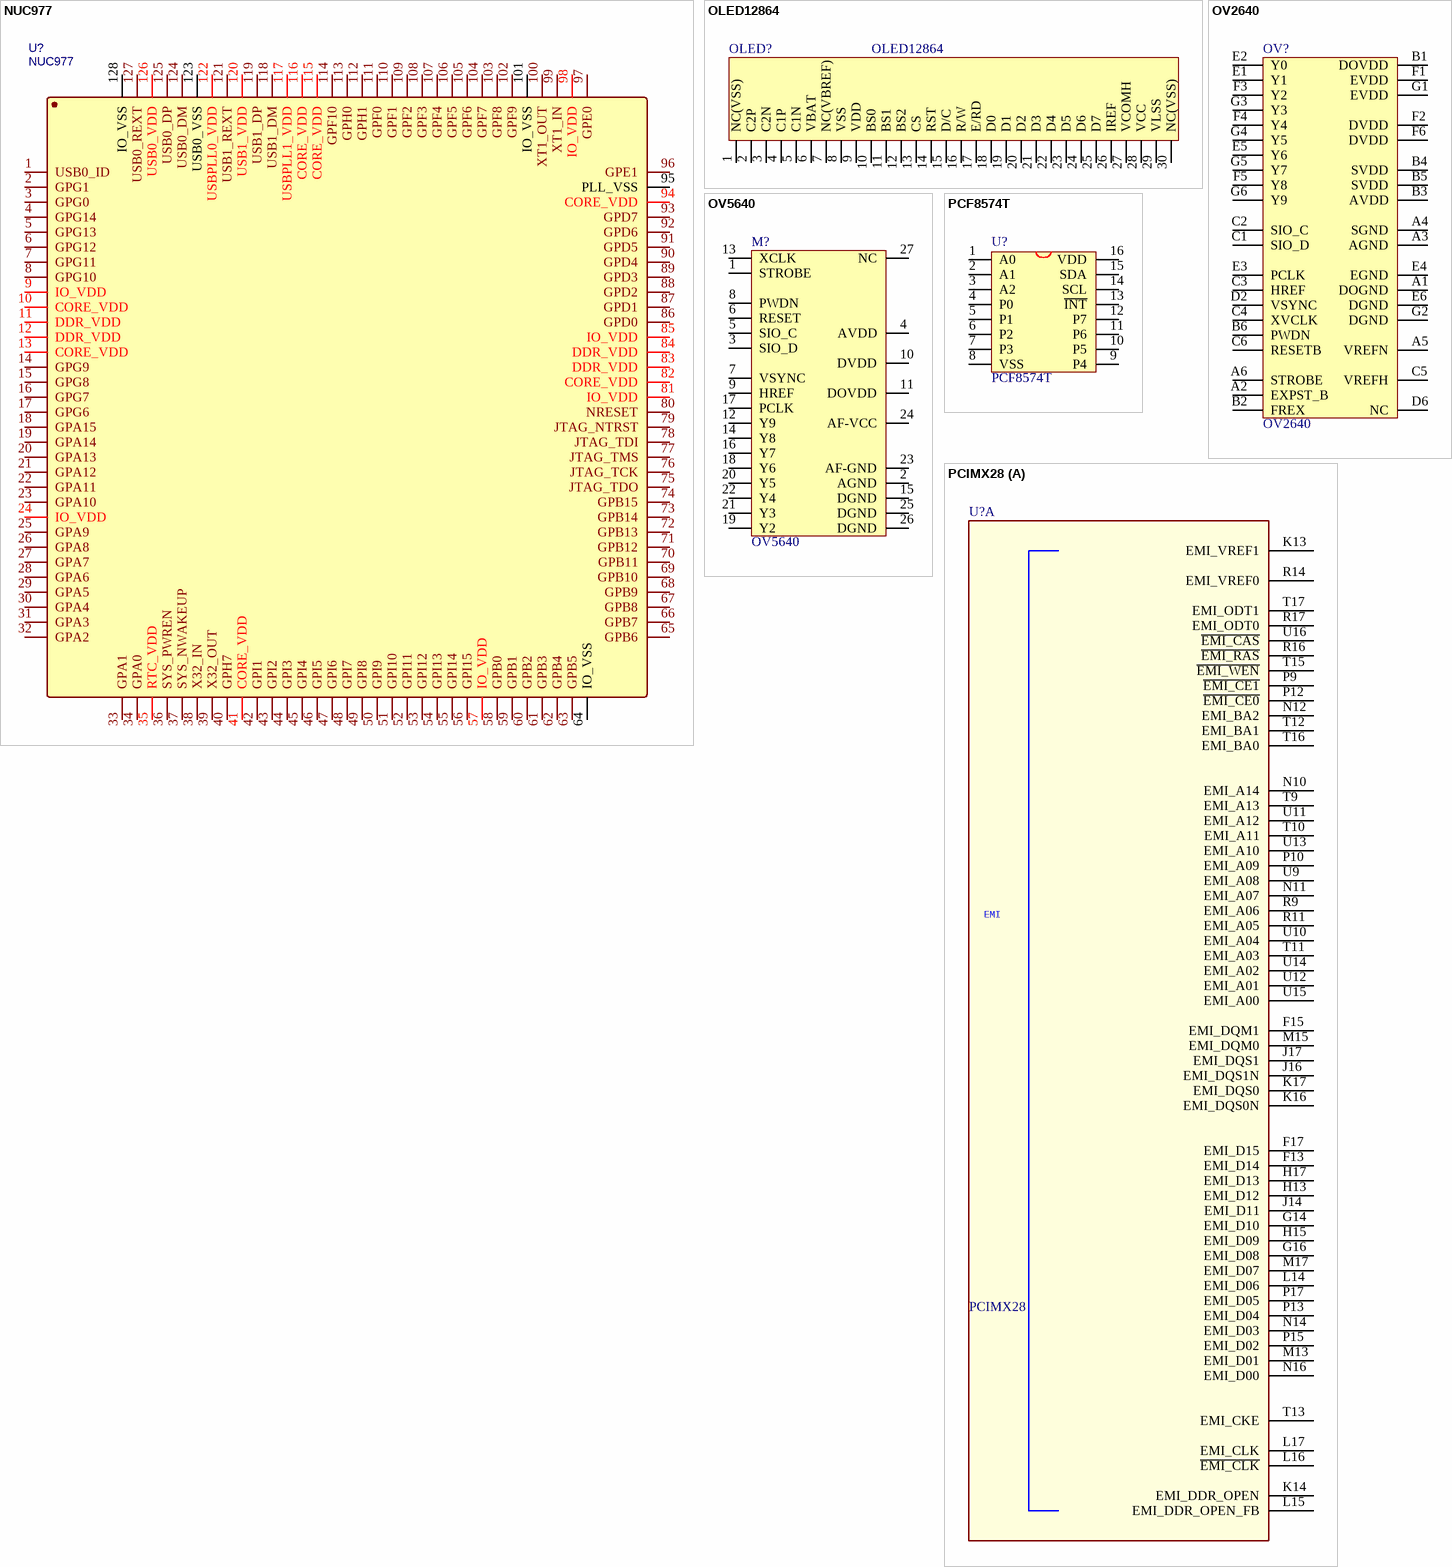
[diagram p7: symbols NUC977 to PCIMX28]

## NUC977
designator U?
BOM_Manufacturer Part: NUC977DK62Y; Contributor: haoxiang2004; BOM_Supplier: LCSC; spicePre: U; spiceSymbolName: NUC977
footprint LQFP-128_14X14X04P
pins: 1 USB0_ID, 2 GPG1, 3 GPG0, 4 GPG14, 5 GPG13, 6 GPG12, 7 GPG11, 8 GPG10, 9 IO_VDD, 10 CORE_VDD, 11 DDR_VDD, 12 DDR_VDD, 13 CORE_VDD, 14 GPG9, 15 GPG8, 16 GPG7, 17 GPG6, 18 GPA15, 19 GPA14, 20 GPA13, 21 GPA12, 22 GPA11, 23 GPA10, 24 IO_VDD, 25 GPA9, 26 GPA8, 27 GPA7, 28 GPA6, 29 GPA5, 30 GPA4, 31 GPA3, 32 GPA2, 33 GPA1, 34 GPA0, 35 RTC_VDD, 36 SYS_PWREN, 37 SYS_NWAKEUP, 38 X32_IN, 39 X32_OUT, 40 GPH7, 41 CORE_VDD, 42 GPI1, 43 GPI2, 44 GPI3, 45 GPI4, 46 GPI5, 47 GPI6, 48 GPI7, 49 GPI8, 50 GPI9, 51 GPI10, 52 GPI11, 53 GPI12, 54 GPI13, 55 GPI14, 56 GPI15, 57 IO_VDD, 58 GPB0, 59 GPB1, 60 GPB2, 61 GPB3, 62 GPB4, 63 GPB5, 64 IO_VSS, 65 GPB6, 66 GPB7, 67 GPB8, 68 GPB9, 69 GPB10, 70 GPB11, 71 GPB12, 72 GPB13, 73 GPB14, 74 GPB15, 75 JTAG_TDO, 76 JTAG_TCK, 77 JTAG_TMS, 78 JTAG_TDI, 79 JTAG_NTRST, 80 NRESET, 81 IO_VDD, 82 CORE_VDD, 83 DDR_VDD, 84 DDR_VDD, 85 IO_VDD, 86 GPD0, 87 GPD1, 88 GPD2, 89 GPD3, 90 GPD4, 91 GPD5, 92 GPD6, 93 GPD7, 94 CORE_VDD, 95 PLL_VSS, 96 GPE1, 97 GPE0, 98 IO_VDD, 99 XT1_IN, 100 XT1_OUT, 101 IO_VSS, 102 GPF9, 103 GPF8, 104 GPF7, 105 GPF6, 106 GPF5, 107 GPF4, 108 GPF3, 109 GPF2, 110 GPF1, 111 GPF0, 112 GPH1, 113 GPH0, 114 GPF10, 115 CORE_VDD, 116 CORE_VDD, 117 USBPLL1_VDD, 118 USB1_DM, 119 USB1_DP, 120 USB1_VDD, 121 USB1_REXT, 122 USBPLL0_VDD, 123 USB0_VSS, 124 USB0_DM, 125 USB0_DP, 126 USB0_VDD, 127 USB0_REXT, 128 IO_VSS

## OLED12864
designator OLED?
footprint OLED_0.96 (128*64)
pins: 1 NC(VSS), 2 C2P, 3 C2N, 4 C1P, 5 C1N, 6 VBAT, 7 NC(VBREF), 8 VSS, 9 VDD, 10 BS0, 11 BS1, 12 BS2, 13 CS, 14 RST, 15 D/C, 16 R/W, 17 E/RD, 18 D0, 19 D1, 20 D2, 21 D3, 22 D4, 23 D5, 24 D6, 25 D7, 26 IREF, 27 VCOMH, 28 VCC, 29 VLSS, 30 NC(VSS)

## OV2640
designator OV?
footprint ov2640-22
footprint BGA38 (BGA, 42-Leads, Body 6.3x5.7mm,  Pitch 0.80mm)
pins: A1 DOGND, A2 EXPST_B, A3 AGND, A4 SGND, A5 VREFN, A6 STROBE, B1 DOVDD, B2 FREX, B3 AVDD, B4 SVDD, B5 SVDD, B6 PWDN, C1 SIO_D, C2 SIO_C, C3 HREF, C4 XVCLK, C5 VREFH, C6 RESETB, D2 VSYNC, D6 NC, E1 Y1, E2 Y0, E3 PCLK, E4 EGND, E5 Y6, E6 DGND, F1 EVDD, F2 DVDD, F3 Y2, F4 Y4, F5 Y8, F6 DVDD, G1 EVDD, G2 DGND, G3 Y3, G4 Y5, G5 Y7, G6 Y9

## OV5640
designator M?
OV5640模组,AF,FPC
footprint OV5640-24 (FPCBOTTOM;0.5mm;)
pins: 1 STROBE, 2 AGND, 3 SIO_D, 4 AVDD, 5 SIO_C, 6 RESET, 7 VSYNC, 8 PWDN, 9 HREF, 10 DVDD, 11 DOVDD, 12 Y9, 13 XCLK, 14 Y8, 15 DGND, 16 Y7, 17 PCLK, 18 Y6, 19 Y2, 20 Y5, 21 Y3, 22 Y4, 23 AF-GND, 24 AF-VCC, 25 DGND, 26 DGND, 27 NC

## PCF8574T
designator U?
8路IO扩展,IIC接口
footprint SO-16 (16 leads,body width 7.5mm,pitch 1.27mm)
pins: 1 A0, 2 A1, 3 A2, 4 P0, 5 P1, 6 P2, 7 P3, 8 VSS, 9 P4, 10 P5, 11 P6, 12 P7, 13 ~{INT}, 14 SCL, 15 SDA, 16 VDD

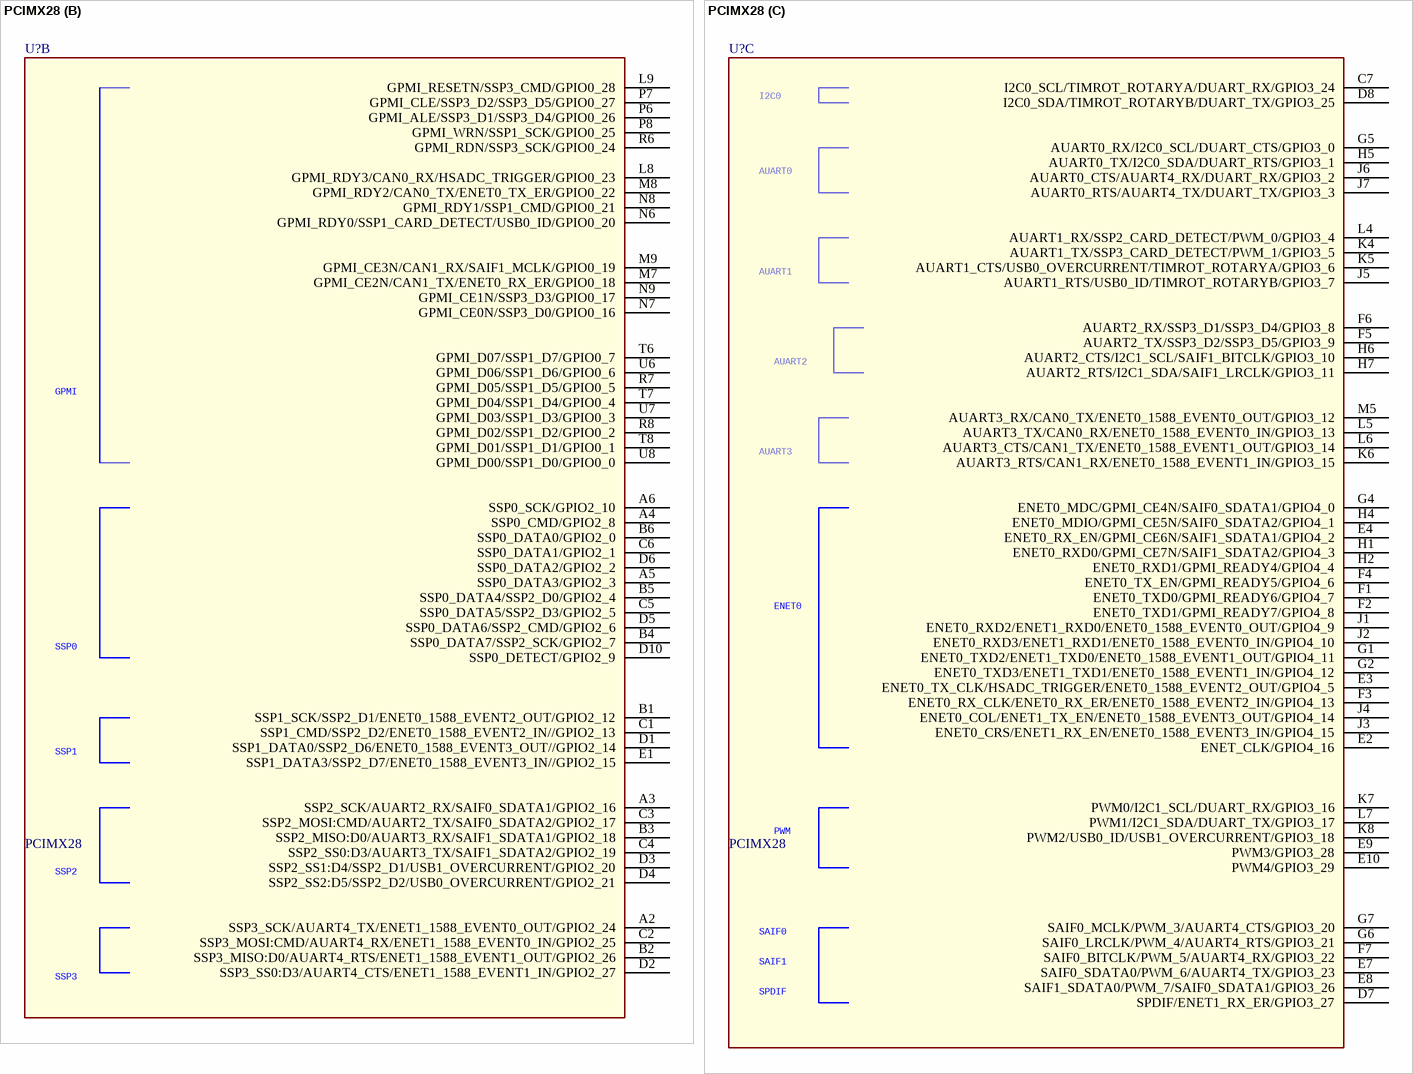
[diagram p8: symbol PCIMX28]

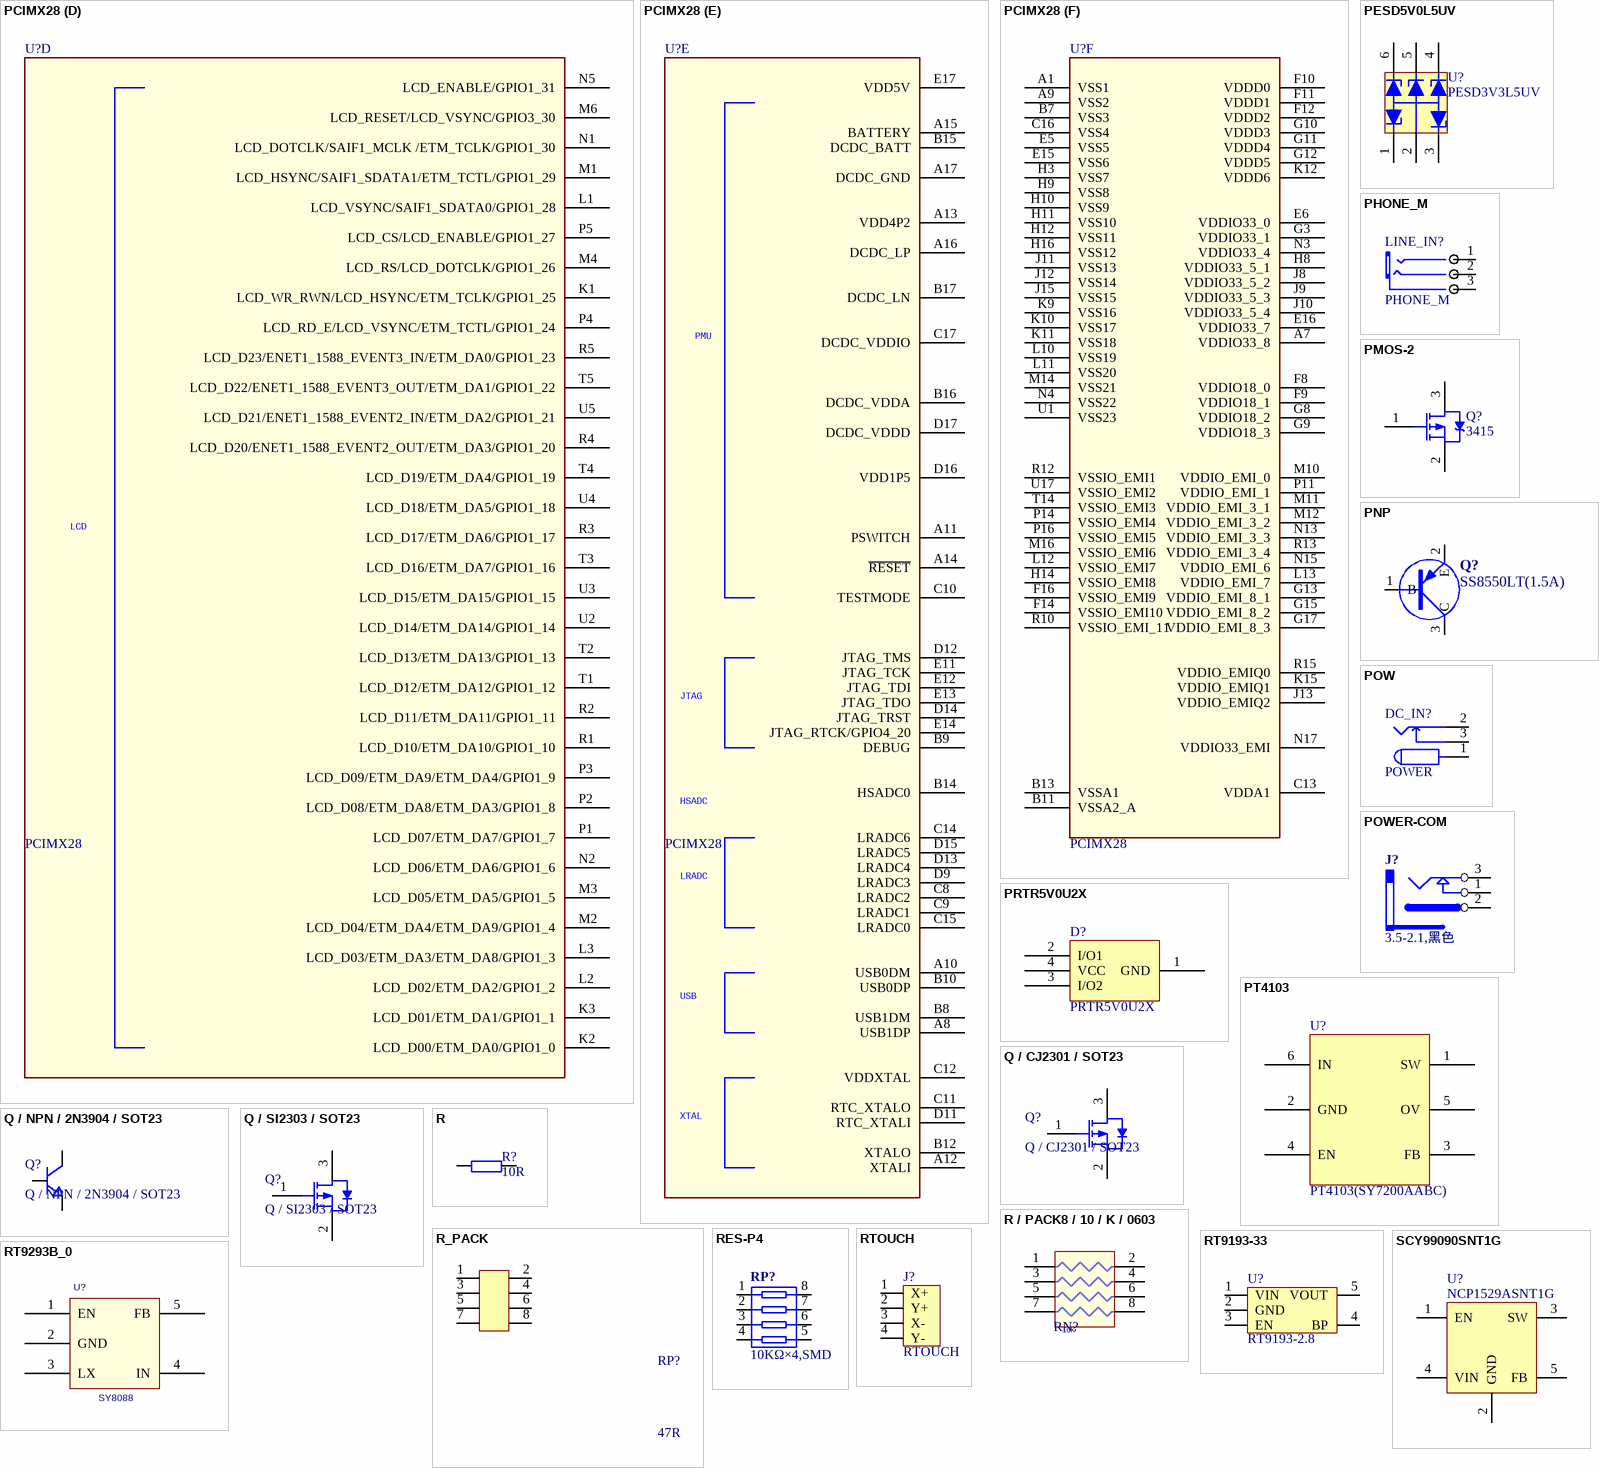
[diagram p9: symbols PCIMX28 to SCY99090SNT1G]